# Altium schematic symbol library MF_MiscLib.schlib: 178 symbols (part 2 of 3)
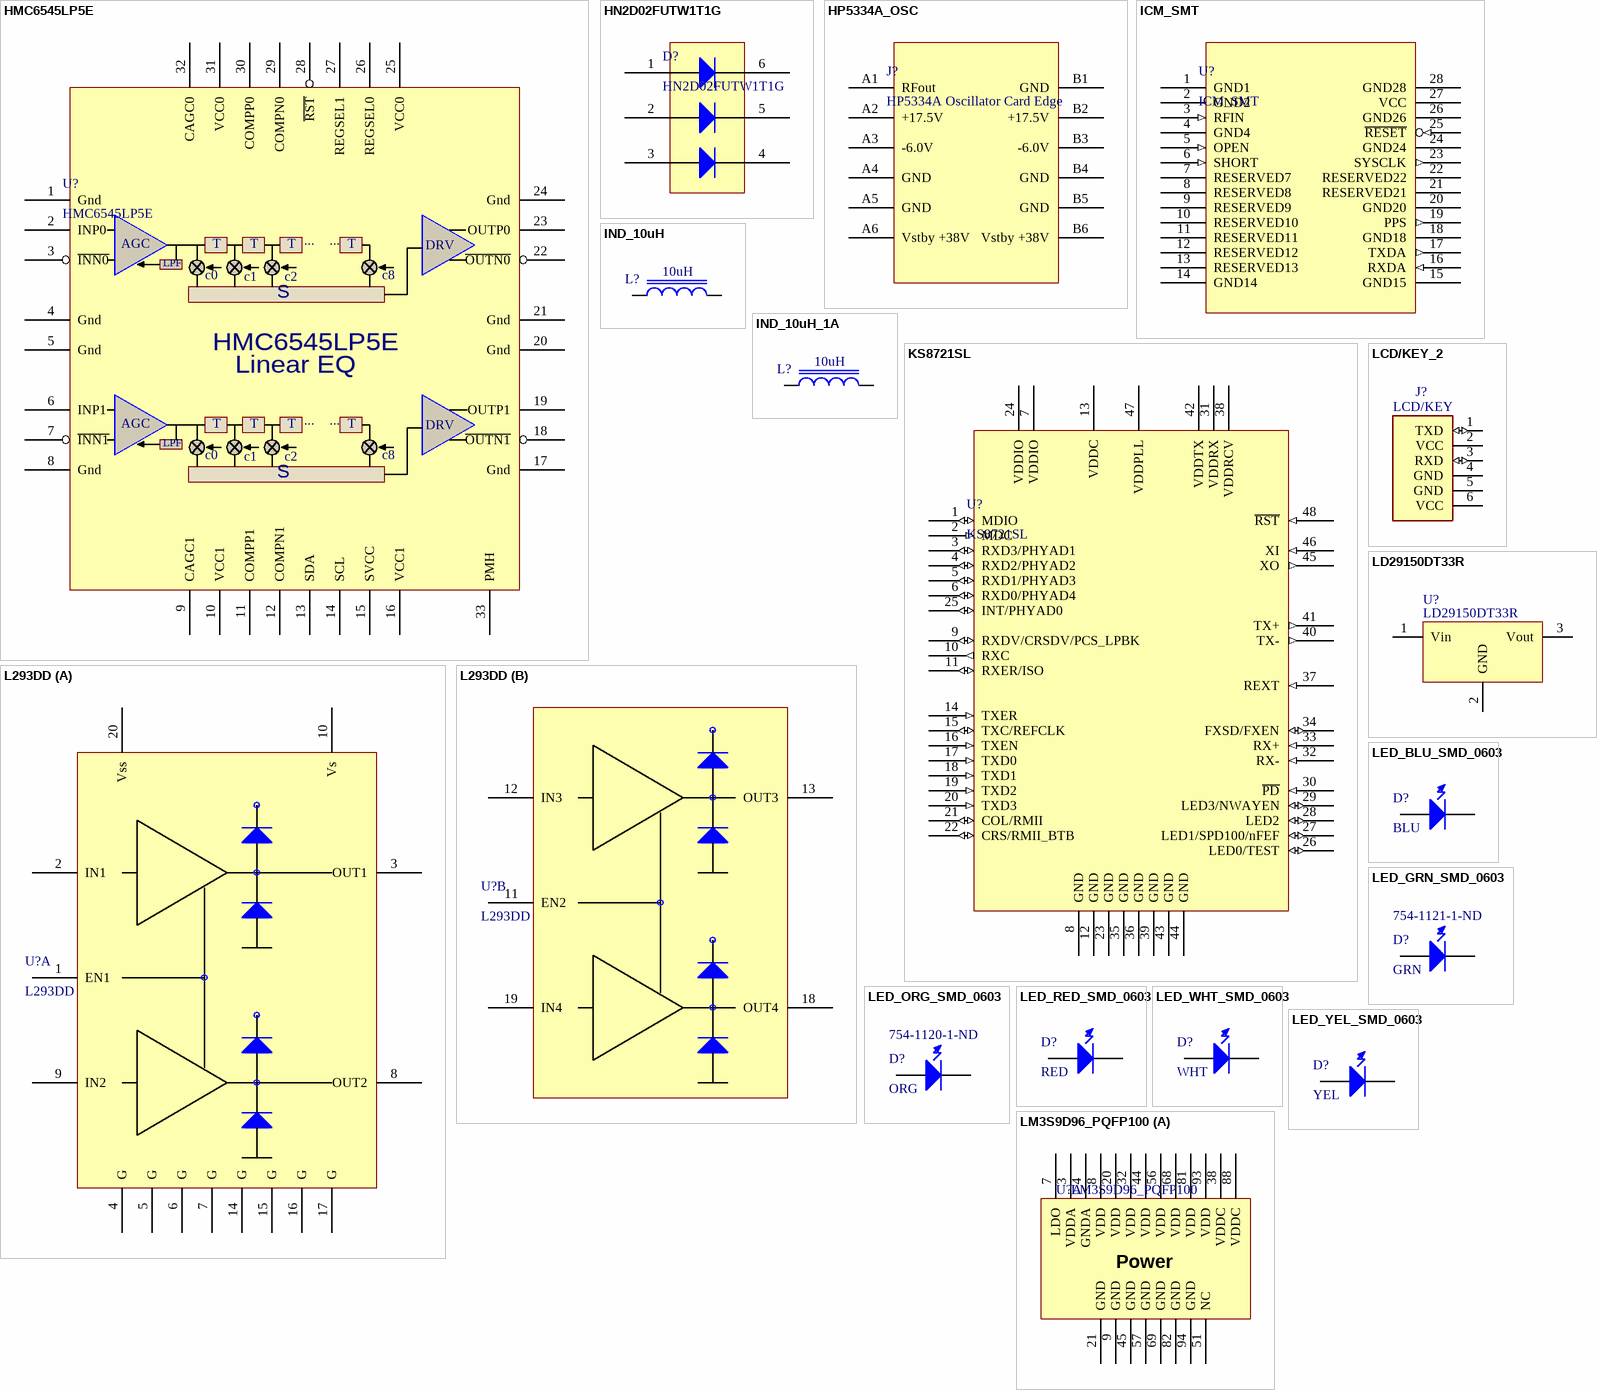
[diagram p10: symbols HMC6545LP5E to LM3S9D96_PQFP100]

## LED_WHT_SMD_0603
designator D?, comment WHT
LED 1.6X0.8MM WHT CLR SMD; Manufacturer: Kingbright; Manufacturer PN: APT1608QWF/D; ComponentLink1Description: Datasheet; ComponentLink1URL: http://www.us.kingbright.com/images/catalog/SPEC/APT1608SURCK.pdf
footprint KINGBRIGHT_LED (Kingbright APT1608 LED)
pins: 1 A, 2 K

## LED_YEL_SMD_0603
designator D?, comment YEL
LED 1.6X0.8MM 588NM YEL CLR SMD; Manufacturer: Kingbright; Manufacturer PN: APT1608SYCK; ComponentLink1Description: Datasheet; ComponentLink1URL: http://www.us.kingbright.com/images/catalog/SPEC/APT1608SURCK.pdf; Supplier 1: Newark; Supplier Part Number 1: 75R0575; Supplier 2: Allied; Supplier Part Number 2: 70062842; Supplier 3: Digi-Key; Supplier Part Number 3: 754-1124-1-ND
footprint KINGBRIGHT_LED (Kingbright APT1608 LED)
pins: 1 A, 2 K

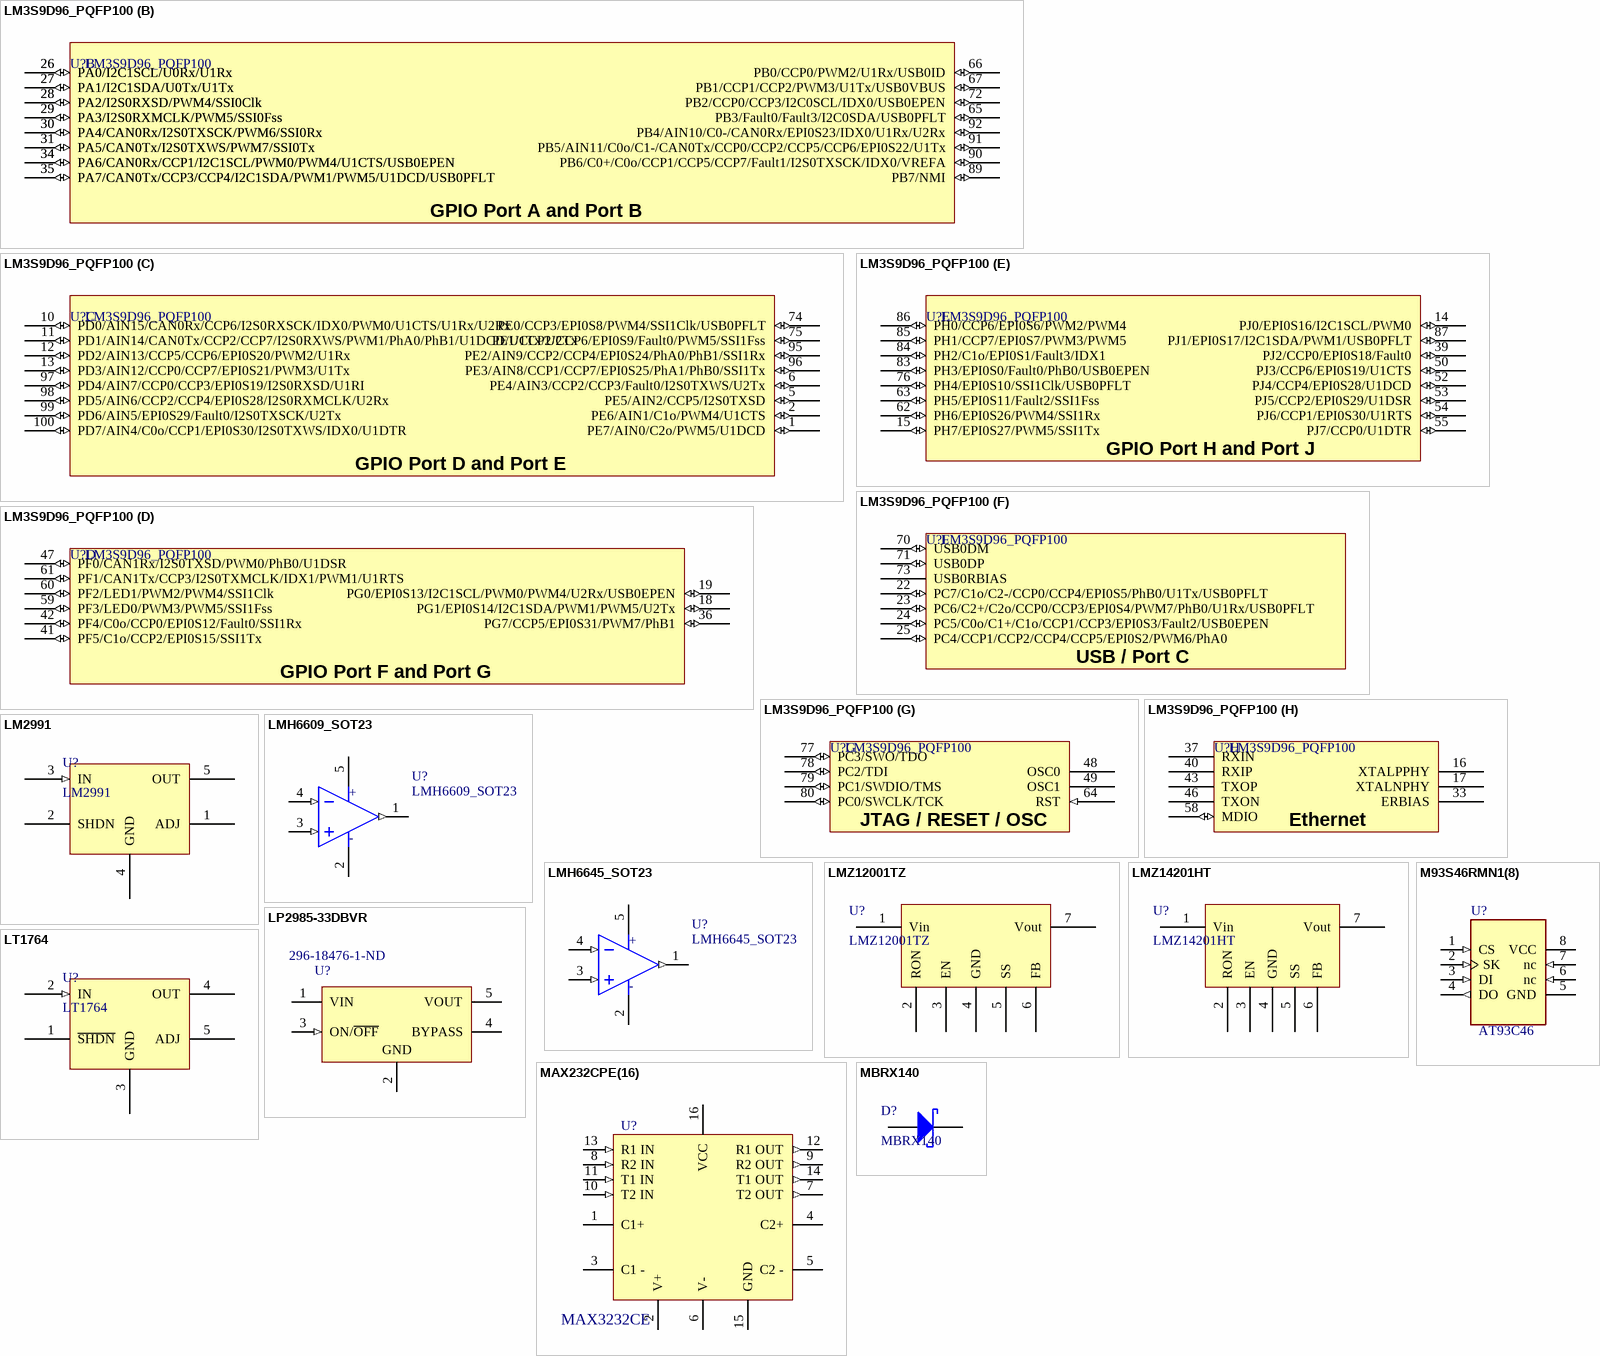
[diagram p4: symbols LM3S9D96_PQFP100 to MBRX140]

## LM3S9D96_PQFP100
designator U?
Processor, ARM Cortex-M3, 512KB, 96KB; Supplier 1: Digi-Key; Supplier 2: Newark; ComponentLink1Description: Datasheet; ComponentLink1URL: http://www.ti.com/lit/ds/symlink/lm3s9d96.pdf; Supplier Part Number 1: LM3S9D96-IQC80-A1-ND; Supplier Part Number 2: 32T2937
footprint TSQFP50P1600X1600X160-100N (TSQFP, 100-Leads, Body 16.2x16.2mm (max), Pitch 0.50mm, IPC Medium Density)
part A pins: 3 VDDA (power), 4 GNDA (power), 7 LDO (power), 8 VDD (power), 9 GND (power), 20 VDD (power), 21 GND (power), 32 VDD (power), 38 VDDC (power), 44 VDD (power), 45 GND (power), 51 NC, 56 VDD (power), 57 GND (power), 68 VDD (power), 69 GND (power), 81 VDD (power), 82 GND (power), 88 VDDC (power), 93 VDD (power), 94 GND (power)
part B pins: 26 PA0/I2C1SCL/U0Rx/U1Rx (io), 26 PA0/I2C1SCL/U0Rx/U1Rx (io), 27 PA1/I2C1SDA/U0Tx/U1Tx (io), 27 PA1/I2C1SDA/U0Tx/U1Tx (io), 28 PA2/I2S0RXSD/PWM4/SSI0Clk (io), 28 PA2/I2S0RXSD/PWM4/SSI0Clk (io), 29 PA3/I2S0RXMCLK/PWM5/SSI0Fss (io), 29 PA3/I2S0RXMCLK/PWM5/SSI0Fss (io), 30 PA4/CAN0Rx/I2S0TXSCK/PWM6/SSI0Rx (io), 30 PA4/CAN0Rx/I2S0TXSCK/PWM6/SSI0Rx (io), 31 PA5/CAN0Tx/I2S0TXWS/PWM7/SSI0Tx (io), 31 PA5/CAN0Tx/I2S0TXWS/PWM7/SSI0Tx (io), 34 PA6/CAN0Rx/CCP1/I2C1SCL/PWM0/PWM4/U1CTS/USB0EPEN (io), 34 PA6/CAN0Rx/CCP1/I2C1SCL/PWM0/PWM4/U1CTS/USB0EPEN (io), 35 PA7/CAN0Tx/CCP3/CCP4/I2C1SDA/PWM1/PWM5/U1DCD/USB0PFLT (io), 35 PA7/CAN0Tx/CCP3/CCP4/I2C1SDA/PWM1/PWM5/U1DCD/USB0PFLT (io), 65 PB3/Fault0/Fault3/I2C0SDA/USB0PFLT (io), 66 PB0/CCP0/PWM2/U1Rx/USB0ID (io), 67 PB1/CCP1/CCP2/PWM3/U1Tx/USB0VBUS (io), 72 PB2/CCP0/CCP3/I2C0SCL/IDX0/USB0EPEN (io), 89 PB7/NMI (io), 90 PB6/C0+/C0o/CCP1/CCP5/CCP7/Fault1/I2S0TXSCK/IDX0/VREFA (io), 91 PB5/AIN11/C0o/C1-/CAN0Tx/CCP0/CCP2/CCP5/CCP6/EPI0S22/U1Tx (io), 92 PB4/AIN10/C0-/CAN0Rx/EPI0S23/IDX0/U1Rx/U2Rx (io)
part C pins: 1 PE7/AIN0/C2o/PWM5/U1DCD (io), 2 PE6/AIN1/C1o/PWM4/U1CTS (io), 5 PE5/AIN2/CCP5/I2S0TXSD (io), 6 PE4/AIN3/CCP2/CCP3/Fault0/I2S0TXWS/U2Tx (io), 10 PD0/AIN15/CAN0Rx/CCP6/I2S0RXSCK/IDX0/PWM0/U1CTS/U1Rx/U2Rx (io), 11 PD1/AIN14/CAN0Tx/CCP2/CCP7/I2S0RXWS/PWM1/PhA0/PhB1/U1DCD/U1Tx/U2Tx (io), 12 PD2/AIN13/CCP5/CCP6/EPI0S20/PWM2/U1Rx (io), 13 PD3/AIN12/CCP0/CCP7/EPI0S21/PWM3/U1Tx (io), 74 PE0/CCP3/EPI0S8/PWM4/SSI1Clk/USB0PFLT (io), 75 PE1/CCP2/CCP6/EPI0S9/Fault0/PWM5/SSI1Fss (io), 95 PE2/AIN9/CCP2/CCP4/EPI0S24/PhA0/PhB1/SSI1Rx (io), 96 PE3/AIN8/CCP1/CCP7/EPI0S25/PhA1/PhB0/SSI1Tx (io), 97 PD4/AIN7/CCP0/CCP3/EPI0S19/I2S0RXSD/U1RI (io), 98 PD5/AIN6/CCP2/CCP4/EPI0S28/I2S0RXMCLK/U2Rx (io), 99 PD6/AIN5/EPI0S29/Fault0/I2S0TXSCK/U2Tx (io), 100 PD7/AIN4/C0o/CCP1/EPI0S30/I2S0TXWS/IDX0/U1DTR (io)
part D pins: 18 PG1/EPI0S14/I2C1SDA/PWM1/PWM5/U2Tx (io), 19 PG0/EPI0S13/I2C1SCL/PWM0/PWM4/U2Rx/USB0EPEN (io), 36 PG7/CCP5/EPI0S31/PWM7/PhB1 (io), 41 PF5/C1o/CCP2/EPI0S15/SSI1Tx (io), 42 PF4/C0o/CCP0/EPI0S12/Fault0/SSI1Rx (io), 47 PF0/CAN1Rx/I2S0TXSD/PWM0/PhB0/U1DSR (io), 59 PF3/LED0/PWM3/PWM5/SSI1Fss (io), 60 PF2/LED1/PWM2/PWM4/SSI1Clk (io), 61 PF1/CAN1Tx/CCP3/I2S0TXMCLK/IDX1/PWM1/U1RTS (io)
part E pins: 14 PJ0/EPI0S16/I2C1SCL/PWM0 (io), 15 PH7/EPI0S27/PWM5/SSI1Tx (io), 39 PJ2/CCP0/EPI0S18/Fault0 (io), 50 PJ3/CCP6/EPI0S19/U1CTS (io), 52 PJ4/CCP4/EPI0S28/U1DCD (io), 53 PJ5/CCP2/EPI0S29/U1DSR (io), 54 PJ6/CCP1/EPI0S30/U1RTS (io), 55 PJ7/CCP0/U1DTR (io), 62 PH6/EPI0S26/PWM4/SSI1Rx (io), 63 PH5/EPI0S11/Fault2/SSI1Fss (io), 76 PH4/EPI0S10/SSI1Clk/USB0PFLT (io), 83 PH3/EPI0S0/Fault0/PhB0/USB0EPEN (io), 84 PH2/C1o/EPI0S1/Fault3/IDX1 (io), 85 PH1/CCP7/EPI0S7/PWM3/PWM5 (io), 86 PH0/CCP6/EPI0S6/PWM2/PWM4 (io), 87 PJ1/EPI0S17/I2C1SDA/PWM1/USB0PFLT (io)
part F pins: 22 PC7/C1o/C2-/CCP0/CCP4/EPI0S5/PhB0/U1Tx/USB0PFLT (io), 23 PC6/C2+/C2o/CCP0/CCP3/EPI0S4/PWM7/PhB0/U1Rx/USB0PFLT (io), 24 PC5/C0o/C1+/C1o/CCP1/CCP3/EPI0S3/Fault2/USB0EPEN (io), 25 PC4/CCP1/CCP2/CCP4/CCP5/EPI0S2/PWM6/PhA0 (io), 70 USB0DM (io), 71 USB0DP (io), 73 USB0RBIAS
part G pins: 48 OSC0, 49 OSC1, 64 RST (in), 77 PC3/SWO/TDO (io), 78 PC2/TDI (io), 79 PC1/SWDIO/TMS (io), 80 PC0/SWCLK/TCK (io)
part H pins: 16 XTALPPHY, 17 XTALNPHY, 33 ERBIAS, 37 RXIN, 40 RXIP, 43 TXOP, 46 TXON, 58 MDIO (io)
part A text: Power
part B text: GPIO Port A and Port B
part C text: GPIO Port D and Port E
part D text: GPIO Port F and Port G
part E text: GPIO Port H and Port J
part F text: USB / Port C
part G text: JTAG / RESET / OSC
part H text: Ethernet

## LM2991
designator U?
Voltage Reguilator, LDO NEG 1A ADJ DDPAK-5; ComponentLink1Description: Datasheet; ComponentLink1URL: http://www.ti.com/lit/ds/symlink/lm2991.pdf; Supplier 1: Newark; Supplier 2: Digi-Key; Supplier Part Number 1: 41K4639; Supplier Part Number 2: LM2991S-ND
footprint TO170P1404X457-6N (D2-PAK, 6-Pads, Body 9.4x10.5mm (max), IPC Medium Density)
pins: 1 ADJ, 2 SHDN, 3 IN (in), 4 GND, 5 OUT

## LMH6609_SOT23
designator U?
Op Amp, 900MHz, SOT-23; Manufacturer: Texas Instruments; Manufacturer PN: LMH6609MF/NOPB; ComponentLink1Description: Datasheet; ComponentLink1URL: http://www.ti.com/lit/ds/symlink/lmh6609.pdf; Supplier 1: Digi-Key; Supplier Part Number 1: LMH6609MF/NOPBDKR-ND
footprint RJ5 (SOT23, 5-Leads, Body 3.0x3.0mm (max), Pitch 0.95mm, IPC Medium Density)
pins: 1 OUT (out), 2 V- (power), 3 IN+ (in), 4 IN- (in), 5 V+ (power)
text: +; -

## LMH6645_SOT23
designator U?
Op Amp, 55MHz RRO, SOT-23; Manufacturer: Texas Instruments; Manufacturer PN: LMH6645MF/NOPB; ComponentLink1Description: Datasheet; ComponentLink1URL: http://www.ti.com/lit/ds/symlink/lmh6645.pdf; Supplier 1: Mouser; Supplier Part Number 1: 926-LMH6645MFX/NOPB; Supplier 2: Mouser; Supplier Part Number 2: 926-LMH6645MF/NOPB
footprint RJ5 (SOT23, 5-Leads, Body 3.0x3.0mm (max), Pitch 0.95mm, IPC Medium Density)
pins: 1 OUT (out), 2 V- (power), 3 IN+ (in), 4 IN- (in), 5 V+ (power)
text: +; -

## LMZ12001TZ
designator U?
Voltage regulator module, switching 20V in 0.8 - 6V out 1A; Manufacturer: Texas Instruments; Manufacturer PN: LMZ12001TZ-ADJ/NOPB; ComponentLink1Description: Datasheet; ComponentLink1URL: http://www.ti.com/lit/ds/symlink/lmz12001.pdf; Supplier 1: Digi-Key; Supplier Part Number 1: LMZ12001TZ-ADJ/NOPBCT-ND; Supplier 2: Newark; Supplier Part Number 2: 74R8006
footprint NS_TZA07A (D2-PAK, 8-Pads, Body 10.1x10.4mm (max), IPC Medium Density)
pins: 1 Vin (power), 2 RON (power), 3 EN (power), 4 GND (power), 5 SS (power), 6 FB (power), 7 Vout (power)

## LMZ14201HT
designator U?
Voltage regulator module, switching 42V in 5 - 30V out 1A; Manufacturer: Texas Instruments; Manufacturer PN: LMZ14201HT/NOPB; Supplier 1: Digi-Key; Supplier 2: Newark; Supplier Part Number 1: LMZ14201HTZ/NOPBCT-ND; Supplier Part Number 2: 39T4768; ComponentLink1Description: Datasheet; ComponentLink1URL: http://www.ti.com/lit/ds/symlink/lmz14201h.pdf
footprint NS_TZA07A (D2-PAK, 8-Pads, Body 10.1x10.4mm (max), IPC Medium Density)
pins: 1 Vin (power), 2 RON (power), 3 EN (power), 4 GND (power), 5 SS (power), 6 FB (power), 7 Vout (power)

## LP2985-33DBVR
designator U?  Supplier Part Number 2: 296-18476-1-ND
Single Output Low Noise LDO, 150 mA, Fixed 3.3 V Output, 2.2 to 16 V Input, with Low IQ, 5-pin SOT-23 (DBV), -40 to 125 degC, Green (RoHS & no Sb/Br); Manufacturer: Texas Instruments; PartNumber: LP2985-33DBVR; Accuracy(%): 1.5; Fixed Output Options(V): 3.3; Iout(Max)(A): 0.15; Iq(Typ)(mA): 0.85; SubFamily: Single Channel LDO; Vdo(Typ)(mV): 280; Vin(Max)(V): 16; Vin(Min)(V): 2.2; Vout Adj(Max)(V): 10; DatasheetVersion: SLVS522N; PackageVersion: 4073253-4/K; PackageReference: DBV5; PackageDescription: 5-Pin Plastic Small Outline, Body 1.60 Ã— 2.90 mm, Pitch 0.95 mm; Eco-Plan: Green (RoHS & no Sb/Br); Vout Adj(Min)(V): 10; Mounting Technology: Surface Mount; Code_JEDEC: MO-178; ComponentLink1Description: Manufacturer URL; ComponentLink1URL: http://www.ti.com/; ComponentLink2Description: Datasheet; ComponentLink2URL: http://www.ti.com/general/docs/lit/getliterature.tsp?genericPartNumber=LP2985-10&fileType=pdf; ComponentLink3Description: Package Specification; ComponentLink3URL: http://www.ti.com/litv/pdf/mpds018i; Supplier 1: Newark; Supplier Part Number 1: 43J9346; Supplier 2: Digi-Key
footprint TI-DBV5_N (SOT23, 5-Leads, Body 2.9x1.6mm, Pitch 0.95mm, IPC Medium Density)
footprint TI-DBV5_L (SOT23, 5-Leads, Body 2.9x1.6mm, Pitch 0.95mm, IPC High Density)
footprint TI-DBV5_M (SOT23, 5-Leads, Body 2.9x1.6mm, Pitch 0.95mm, IPC Low Density)
pins: 1 VIN (power), 2 GND (power), 3 ON/~{OFF} (in), 4 BYPASS, 5 VOUT (power)

## LT1764
designator U?
Voltage Reguilator, LDO LO NOISE 3A ADJ DDPAK-5; ComponentLink1Description: Datasheet; ComponentLink1URL: http://cds.linear.com/docs/Datasheet/1764fb.pdf; Supplier 1: Digi-Key; Supplier 2: Newark; Supplier Part Number 1: LT1764AEQ#PBF-ND; Supplier Part Number 2: 57M6108
footprint TO170P1404X457-6N (D2-PAK, 6-Pads, Body 9.4x10.5mm (max), IPC Medium Density)
pins: 1 ~{SHDN}, 2 IN (in), 3 GND, 4 OUT, 5 ADJ

## M93S46RMN1(8)
designator U?, comment AT93C46
4K/2K/1K(X16) Serial Microwire Bus EEPROM With Block Protection; Part Field 1: EE MEMORY  64x16 SERIAL; Part Field 2: ATMEL AT93C46-10SU-1.8; Part Field 3: AT93C46-10SU-1.8-ND; Part Field 4: 0.68; Part Field 5: 0.38
footprint SOP8
footprint SO8
pins: 1 CS (in), 2 SK (in), 3 DI (in), 4 DO (out), 5 GND, 6 nc (in), 7 nc (in), 8 VCC

## MAX232CPE(16)
designator U?, comment MAX3232CE
+-15KV ESD-PROTECTED, +5V RS-232 TRANSCEIVERS; Part Field 1: MAXIM  MAX3232CE; Part Field 2: MAX3232ECDR; Part Field 3: 296-19851-1-ND; Part Field 4: 1.50; Part Field 5: 0.90
footprint SO16
pins: 1 C1+, 2 V+ (power), 3 C1 -, 4 C2+, 5 C2 -, 6 V- (power), 7 T2 OUT (out), 8 R2 IN (in), 9 R2 OUT (out), 10 T2 IN (in), 11 T1 IN (in), 12 R1 OUT (out), 13 R1 IN (in), 14 T1 OUT (out), 15 GND (power), 16 VCC (power)

## MBRX140
designator D?
DIODE SCHOTTKY 40V 1A SOD123; Manufacturer: Micro Commercial Co; Manufacturer PN: MBRX140-TP; ComponentLink1Description: Datasheet; ComponentLink1URL: http://www.mccsemi.com/up_pdf/MBRX120-MBRX160(SOD123).pdf; Supplier 1: Digi-Key; Supplier 2: Newark; Supplier Part Number 1: MBRX140TPMSDKR-ND; Supplier Part Number 2: 51T4912
footprint SOD123
pins: 1 K, 2 A

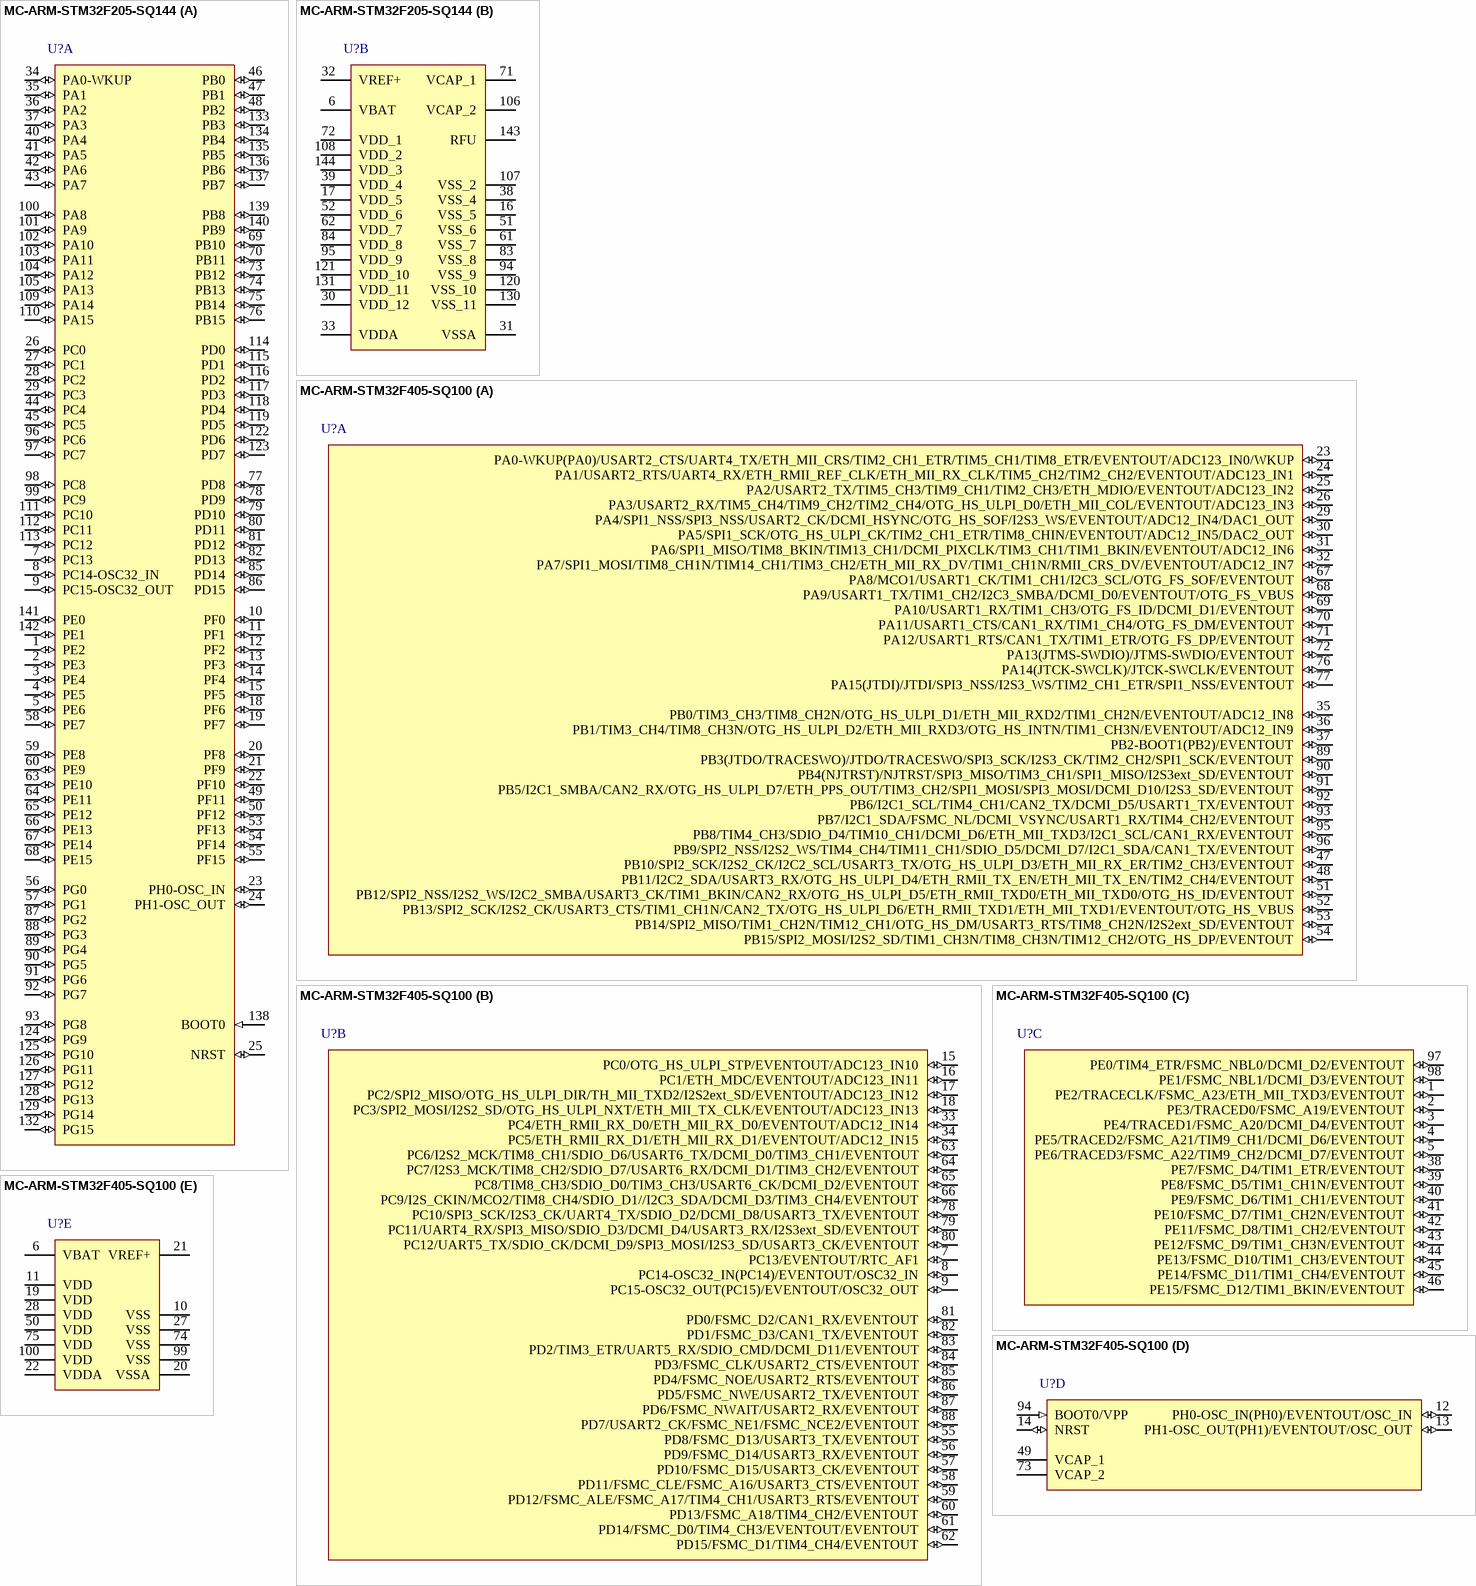
[diagram p5: symbols MC-ARM-STM32F205-SQ144 to MC-ARM-STM32F405-SQ100]

## MC-ARM-STM32F205-SQ144
designator U?
footprint LQFP144_M (Thin QFP, 144-Leads, Body 20x20mm, Pitch 0.5mm, IPC Low Density)
part A pins: 1 PE2 (io), 2 PE3 (io), 3 PE4 (io), 4 PE5 (io), 5 PE6 (io), 7 PC13 (io), 8 PC14-OSC32_IN (io), 9 PC15-OSC32_OUT (io), 10 PF0 (io), 11 PF1 (io), 12 PF2 (io), 13 PF3 (io), 14 PF4 (io), 15 PF5 (io), 18 PF6 (io), 19 PF7 (io), 20 PF8 (io), 21 PF9 (io), 22 PF10 (io), 23 PH0-OSC_IN (io), 24 PH1-OSC_OUT (io), 25 NRST (io), 26 PC0 (io), 27 PC1 (io), 28 PC2 (io), 29 PC3 (io), 34 PA0-WKUP (io), 35 PA1 (io), 36 PA2 (io), 37 PA3 (io), 40 PA4 (io), 41 PA5 (io), 42 PA6 (io), 43 PA7 (io), 44 PC4 (io), 45 PC5 (io), 46 PB0 (io), 47 PB1 (io), 48 PB2 (io), 49 PF11 (io), 50 PF12 (io), 53 PF13 (io), 54 PF14 (io), 55 PF15 (io), 56 PG0 (io), 57 PG1 (io), 58 PE7 (io), 59 PE8 (io), 60 PE9 (io), 63 PE10 (io), 64 PE11 (io), 65 PE12 (io), 66 PE13 (io), 67 PE14 (io), 68 PE15 (io), 69 PB10 (io), 70 PB11 (io), 73 PB12 (io), 74 PB13 (io), 75 PB14 (io), 76 PB15 (io), 77 PD8 (io), 78 PD9 (io), 79 PD10 (io), 80 PD11 (io), 81 PD12 (io), 82 PD13 (io), 85 PD14 (io), 86 PD15 (io), 87 PG2 (io), 88 PG3 (io), 89 PG4 (io), 90 PG5 (io), 91 PG6 (io), 92 PG7 (io), 93 PG8 (io), 96 PC6 (io), 97 PC7 (io), 98 PC8 (io), 99 PC9 (io), 100 PA8 (io), 101 PA9 (io), 102 PA10 (io), 103 PA11 (io), 104 PA12 (io), 105 PA13 (io), 109 PA14 (io), 110 PA15 (io), 111 PC10 (io), 112 PC11 (io), 113 PC12 (io), 114 PD0 (io), 115 PD1 (io), 116 PD2 (io), 117 PD3 (io), 118 PD4 (io), 119 PD5 (io), 122 PD6 (io), 123 PD7 (io), 124 PG9 (io), 125 PG10 (io), 126 PG11 (io), 127 PG12 (io), 128 PG13 (io), 129 PG14 (io), 132 PG15 (io), 133 PB3 (io), 134 PB4 (io), 135 PB5 (io), 136 PB6 (io), 137 PB7 (io), 138 BOOT0 (in), 139 PB8 (io), 140 PB9 (io), 141 PE0 (io), 142 PE1 (io)
part B pins: 6 VBAT (power), 16 VSS_5 (power), 17 VDD_5 (power), 30 VDD_12 (power), 31 VSSA (power), 32 VREF+ (power), 33 VDDA (power), 38 VSS_4 (power), 39 VDD_4 (power), 51 VSS_6 (power), 52 VDD_6 (power), 61 VSS_7 (power), 62 VDD_7 (power), 71 VCAP_1, 72 VDD_1 (power), 83 VSS_8 (power), 84 VDD_8 (power), 94 VSS_9 (power), 95 VDD_9 (power), 106 VCAP_2, 107 VSS_2 (power), 108 VDD_2 (power), 120 VSS_10 (power), 121 VDD_10 (power), 130 VSS_11 (power), 131 VDD_11 (power), 143 RFU, 144 VDD_3 (power)

## MC-ARM-STM32F405-SQ100
designator U?
footprint LQFP100_M (Thin QFP, 100-Leads, Body 14x14mm, Pitch 0.5mm, IPC Low Density)
part A pins: 23 PA0-WKUP(PA0)/USART2_CTS/UART4_TX/ETH_MII_CRS/TIM2_CH1_ETR/TIM5_CH1/TIM8_ETR/EVENTOUT/ADC123_IN0/WKUP (io), 24 PA1/USART2_RTS/UART4_RX/ETH_RMII_REF_CLK/ETH_MII_RX_CLK/TIM5_CH2/TIM2_CH2/EVENTOUT/ADC123_IN1 (io), 25 PA2/USART2_TX/TIM5_CH3/TIM9_CH1/TIM2_CH3/ETH_MDIO/EVENTOUT/ADC123_IN2 (io), 26 PA3/USART2_RX/TIM5_CH4/TIM9_CH2/TIM2_CH4/OTG_HS_ULPI_D0/ETH_MII_COL/EVENTOUT/ADC123_IN3 (io), 29 PA4/SPI1_NSS/SPI3_NSS/USART2_CK/DCMI_HSYNC/OTG_HS_SOF/I2S3_WS/EVENTOUT/ADC12_IN4/DAC1_OUT (io), 30 PA5/SPI1_SCK/OTG_HS_ULPI_CK/TIM2_CH1_ETR/TIM8_CHIN/EVENTOUT/ADC12_IN5/DAC2_OUT (io), 31 PA6/SPI1_MISO/TIM8_BKIN/TIM13_CH1/DCMI_PIXCLK/TIM3_CH1/TIM1_BKIN/EVENTOUT/ADC12_IN6 (io), 32 PA7/SPI1_MOSI/TIM8_CH1N/TIM14_CH1/TIM3_CH2/ETH_MII_RX_DV/TIM1_CH1N/RMII_CRS_DV/EVENTOUT/ADC12_IN7 (io), 35 PB0/TIM3_CH3/TIM8_CH2N/OTG_HS_ULPI_D1/ETH_MII_RXD2/TIM1_CH2N/EVENTOUT/ADC12_IN8 (io), 36 PB1/TIM3_CH4/TIM8_CH3N/OTG_HS_ULPI_D2/ETH_MII_RXD3/OTG_HS_INTN/TIM1_CH3N/EVENTOUT/ADC12_IN9 (io), 37 PB2-BOOT1(PB2)/EVENTOUT (io), 47 PB10/SPI2_SCK/I2S2_CK/I2C2_SCL/USART3_TX/OTG_HS_ULPI_D3/ETH_MII_RX_ER/TIM2_CH3/EVENTOUT (io), 48 PB11/I2C2_SDA/USART3_RX/OTG_HS_ULPI_D4/ETH_RMII_TX_EN/ETH_MII_TX_EN/TIM2_CH4/EVENTOUT (io), 51 PB12/SPI2_NSS/I2S2_WS/I2C2_SMBA/USART3_CK/TIM1_BKIN/CAN2_RX/OTG_HS_ULPI_D5/ETH_RMII_TXD0/ETH_MII_TXD0/OTG_HS_ID/EVENTOUT (io), 52 PB13/SPI2_SCK/I2S2_CK/USART3_CTS/TIM1_CH1N/CAN2_TX/OTG_HS_ULPI_D6/ETH_RMII_TXD1/ETH_MII_TXD1/EVENTOUT/OTG_HS_VBUS (io), 53 PB14/SPI2_MISO/TIM1_CH2N/TIM12_CH1/OTG_HS_DM/USART3_RTS/TIM8_CH2N/I2S2ext_SD/EVENTOUT (io), 54 PB15/SPI2_MOSI/I2S2_SD/TIM1_CH3N/TIM8_CH3N/TIM12_CH2/OTG_HS_DP/EVENTOUT (io), 67 PA8/MCO1/USART1_CK/TIM1_CH1/I2C3_SCL/OTG_FS_SOF/EVENTOUT (io), 68 PA9/USART1_TX/TIM1_CH2/I2C3_SMBA/DCMI_D0/EVENTOUT/OTG_FS_VBUS (io), 69 PA10/USART1_RX/TIM1_CH3/OTG_FS_ID/DCMI_D1/EVENTOUT (io), 70 PA11/USART1_CTS/CAN1_RX/TIM1_CH4/OTG_FS_DM/EVENTOUT (io), 71 PA12/USART1_RTS/CAN1_TX/TIM1_ETR/OTG_FS_DP/EVENTOUT (io), 72 PA13(JTMS-SWDIO)/JTMS-SWDIO/EVENTOUT (io), 76 PA14(JTCK-SWCLK)/JTCK-SWCLK/EVENTOUT (io), 77 PA15(JTDI)/JTDI/SPI3_NSS/I2S3_WS/TIM2_CH1_ETR/SPI1_NSS/EVENTOUT (io), 89 PB3(JTDO/TRACESWO)/JTDO/TRACESWO/SPI3_SCK/I2S3_CK/TIM2_CH2/SPI1_SCK/EVENTOUT (io), 90 PB4(NJTRST)/NJTRST/SPI3_MISO/TIM3_CH1/SPI1_MISO/I2S3ext_SD/EVENTOUT (io), 91 PB5/I2C1_SMBA/CAN2_RX/OTG_HS_ULPI_D7/ETH_PPS_OUT/TIM3_CH2/SPI1_MOSI/SPI3_MOSI/DCMI_D10/I2S3_SD/EVENTOUT (io), 92 PB6/I2C1_SCL/TIM4_CH1/CAN2_TX/DCMI_D5/USART1_TX/EVENTOUT (io), 93 PB7/I2C1_SDA/FSMC_NL/DCMI_VSYNC/USART1_RX/TIM4_CH2/EVENTOUT (io), 95 PB8/TIM4_CH3/SDIO_D4/TIM10_CH1/DCMI_D6/ETH_MII_TXD3/I2C1_SCL/CAN1_RX/EVENTOUT (io), 96 PB9/SPI2_NSS/I2S2_WS/TIM4_CH4/TIM11_CH1/SDIO_D5/DCMI_D7/I2C1_SDA/CAN1_TX/EVENTOUT (io)
part B pins: 7 PC13/EVENTOUT/RTC_AF1 (io), 8 PC14-OSC32_IN(PC14)/EVENTOUT/OSC32_IN (io), 9 PC15-OSC32_OUT(PC15)/EVENTOUT/OSC32_OUT (io), 15 PC0/OTG_HS_ULPI_STP/EVENTOUT/ADC123_IN10 (io), 16 PC1/ETH_MDC/EVENTOUT/ADC123_IN11 (io), 17 PC2/SPI2_MISO/OTG_HS_ULPI_DIR/TH_MII_TXD2/I2S2ext_SD/EVENTOUT/ADC123_IN12 (io), 18 PC3/SPI2_MOSI/I2S2_SD/OTG_HS_ULPI_NXT/ETH_MII_TX_CLK/EVENTOUT/ADC123_IN13 (io), 33 PC4/ETH_RMII_RX_D0/ETH_MII_RX_D0/EVENTOUT/ADC12_IN14 (io), 34 PC5/ETH_RMII_RX_D1/ETH_MII_RX_D1/EVENTOUT/ADC12_IN15 (io), 55 PD8/FSMC_D13/USART3_TX/EVENTOUT (io), 56 PD9/FSMC_D14/USART3_RX/EVENTOUT (io), 57 PD10/FSMC_D15/USART3_CK/EVENTOUT (io), 58 PD11/FSMC_CLE/FSMC_A16/USART3_CTS/EVENTOUT (io), 59 PD12/FSMC_ALE/FSMC_A17/TIM4_CH1/USART3_RTS/EVENTOUT (io), 60 PD13/FSMC_A18/TIM4_CH2/EVENTOUT (io), 61 PD14/FSMC_D0/TIM4_CH3/EVENTOUT/EVENTOUT (io), 62 PD15/FSMC_D1/TIM4_CH4/EVENTOUT (io), 63 PC6/I2S2_MCK/TIM8_CH1/SDIO_D6/USART6_TX/DCMI_D0/TIM3_CH1/EVENTOUT (io), 64 PC7/I2S3_MCK/TIM8_CH2/SDIO_D7/USART6_RX/DCMI_D1/TIM3_CH2/EVENTOUT (io), 65 PC8/TIM8_CH3/SDIO_D0/TIM3_CH3/USART6_CK/DCMI_D2/EVENTOUT (io), 66 PC9/I2S_CKIN/MCO2/TIM8_CH4/SDIO_D1//I2C3_SDA/DCMI_D3/TIM3_CH4/EVENTOUT (io), 78 PC10/SPI3_SCK/I2S3_CK/UART4_TX/SDIO_D2/DCMI_D8/USART3_TX/EVENTOUT (io), 79 PC11/UART4_RX/SPI3_MISO/SDIO_D3/DCMI_D4/USART3_RX/I2S3ext_SD/EVENTOUT (io), 80 PC12/UART5_TX/SDIO_CK/DCMI_D9/SPI3_MOSI/I2S3_SD/USART3_CK/EVENTOUT (io), 81 PD0/FSMC_D2/CAN1_RX/EVENTOUT (io), 82 PD1/FSMC_D3/CAN1_TX/EVENTOUT (io), 83 PD2/TIM3_ETR/UART5_RX/SDIO_CMD/DCMI_D11/EVENTOUT (io), 84 PD3/FSMC_CLK/USART2_CTS/EVENTOUT (io), 85 PD4/FSMC_NOE/USART2_RTS/EVENTOUT (io), 86 PD5/FSMC_NWE/USART2_TX/EVENTOUT (io), 87 PD6/FSMC_NWAIT/USART2_RX/EVENTOUT (io), 88 PD7/USART2_CK/FSMC_NE1/FSMC_NCE2/EVENTOUT (io)
part C pins: 1 PE2/TRACECLK/FSMC_A23/ETH_MII_TXD3/EVENTOUT (io), 2 PE3/TRACED0/FSMC_A19/EVENTOUT (io), 3 PE4/TRACED1/FSMC_A20/DCMI_D4/EVENTOUT (io), 4 PE5/TRACED2/FSMC_A21/TIM9_CH1/DCMI_D6/EVENTOUT (io), 5 PE6/TRACED3/FSMC_A22/TIM9_CH2/DCMI_D7/EVENTOUT (io), 38 PE7/FSMC_D4/TIM1_ETR/EVENTOUT (io), 39 PE8/FSMC_D5/TIM1_CH1N/EVENTOUT (io), 40 PE9/FSMC_D6/TIM1_CH1/EVENTOUT (io), 41 PE10/FSMC_D7/TIM1_CH2N/EVENTOUT (io), 42 PE11/FSMC_D8/TIM1_CH2/EVENTOUT (io), 43 PE12/FSMC_D9/TIM1_CH3N/EVENTOUT (io), 44 PE13/FSMC_D10/TIM1_CH3/EVENTOUT (io), 45 PE14/FSMC_D11/TIM1_CH4/EVENTOUT (io), 46 PE15/FSMC_D12/TIM1_BKIN/EVENTOUT (io), 97 PE0/TIM4_ETR/FSMC_NBL0/DCMI_D2/EVENTOUT (io), 98 PE1/FSMC_NBL1/DCMI_D3/EVENTOUT (io)
part D pins: 12 PH0-OSC_IN(PH0)/EVENTOUT/OSC_IN (io), 13 PH1-OSC_OUT(PH1)/EVENTOUT/OSC_OUT (io), 14 NRST (io), 49 VCAP_1 (power), 73 VCAP_2 (power), 94 BOOT0/VPP (in)
part E pins: 6 VBAT (power), 10 VSS (power), 11 VDD (power), 19 VDD (power), 20 VSSA (power), 21 VREF+ (power), 22 VDDA (power), 27 VSS (power), 28 VDD (power), 50 VDD (power), 74 VSS (power), 75 VDD (power), 99 VSS (power), 100 VDD (power)

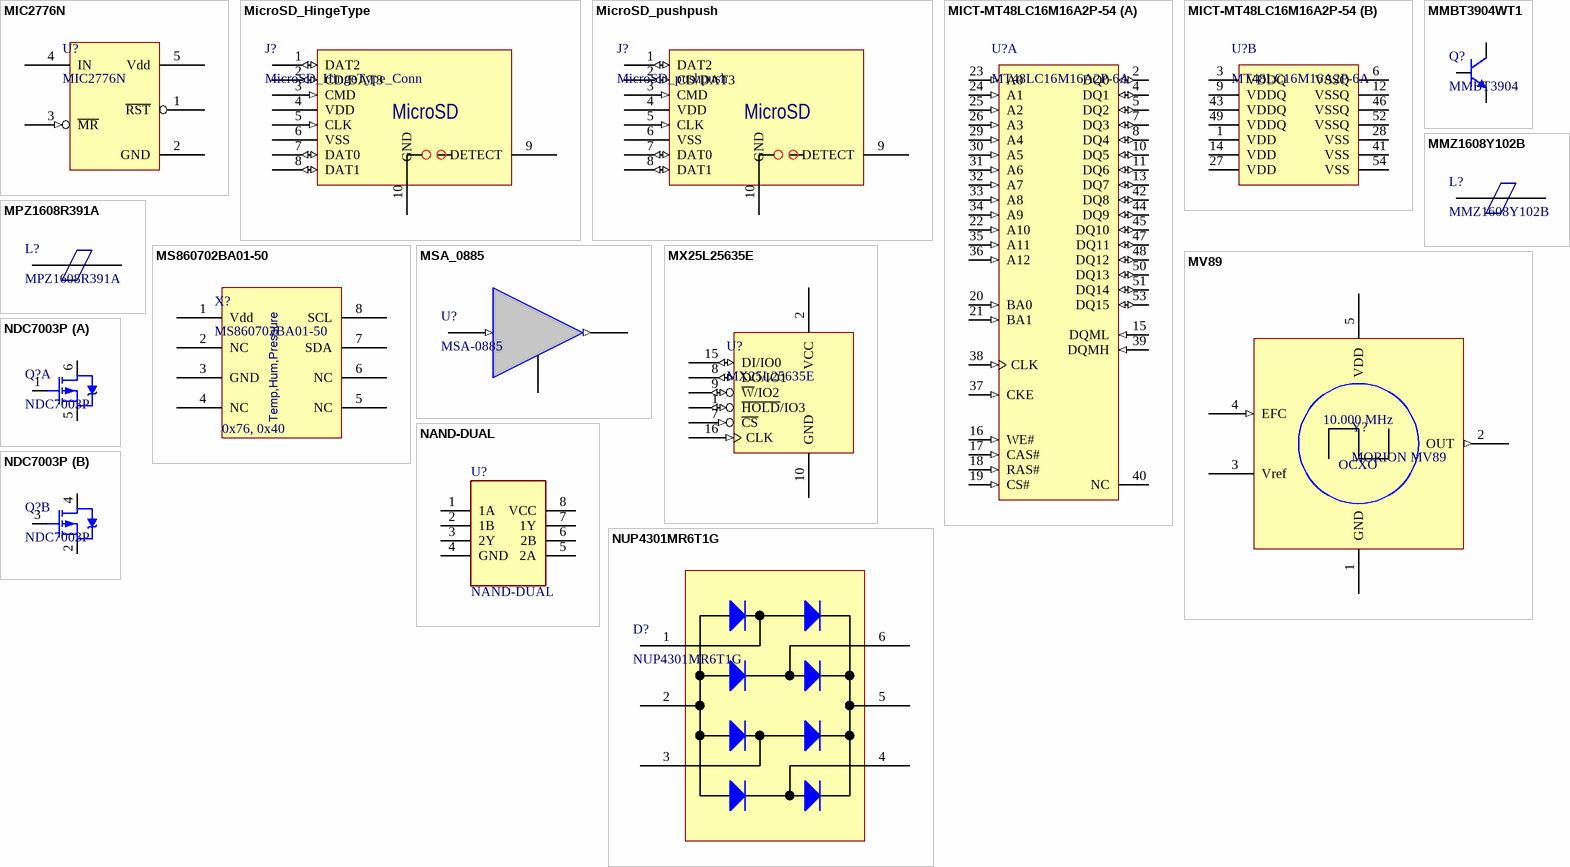
[diagram p6: symbols MIC2776N to NUP4301MR6T1G]

## MIC2776N
designator U?
MIC2776N-YM5 Reset/Voltage Supv Open drain Active Low; Manufacturer: Micrel; TPN: 156-9356-00; ComponentLink1Description: Datasheet; ComponentLink1URL: http://www.micrel.com/_PDF/mic2776.pdf; Supplier 1: Digi-Key; Supplier 3: Arrow; Supplier Part Number 1: 576-1103-1-ND; Supplier Part Number 3: 41665962S7461516N1374; Manufacturer PN: MIC2776N-YM5
footprint SOT95P245X145-5N (SOT23, 5-Leads, Body 3.0x2.6mm (max), Pitch 0.95mm, IPC Medium Density)
pins: 1 ~{RST} (oc), 2 GND, 3 ~{MR} (in), 4 IN, 5 Vdd

## MicroSD_HingeType
designator J?, comment MicroSD_HingeType_Conn
Micro SD hinge type connector; Supplier 1: Newark; Supplier 2: Digi-Key; Supplier Part Number 1: 35R0581; Supplier Part Number 2: HR1940CT-ND; ComponentLink1Description: Datasheet; ComponentLink1URL: http://www.hirose.co.jp/cataloge_hp/e60900232.pdf
footprint MicroSD_Hinge
pins: 1 DAT2 (io), 2 CD/DAT3 (io), 3 CMD (in), 4 VDD (power), 5 CLK (in), 6 VSS (power), 7 DAT0 (io), 8 DAT1 (io), 9 DETECT, 10 GND
text: MicroSD

## MicroSD_pushpush
designator J?
Micro SD socket push-push; Manufacturer: Molex; Manufacturer PN: 0492250821; ComponentLink1Description: Datasheet; ComponentLink1URL: http://www.molex.com/pdm_docs/sd/492250821_sd.pdf; Supplier 1: Digi-Key; Supplier Part Number 1: WM3295CT-ND; Supplier 2: Arrow; Supplier Part Number 2: 46119328S8062909N3303; Supplier 3: Mouser; Supplier Part Number 3: 538-49225-0821
footprint MicroSD_PushPush (MicroSD memory socket Push-Push Molex 492250821)
pins: 1 DAT2 (io), 2 CD/DAT3 (io), 3 CMD (in), 4 VDD (power), 5 CLK (in), 6 VSS (power), 7 DAT0 (io), 8 DAT1 (io), 9 DETECT, 10 GND
text: MicroSD

## MICT-MT48LC16M16A2P-54
designator U?, comment MT48LC16M16A2P-6A
IC SDRAM 256MBIT 167MHZ 54TSOP; Manufacturer: Micron Technology; Manufacturer PN: MT48LC16M16A2P-6A:G TR; ComponentLink1Description: Datasheet; ComponentLink1URL: http://www.micron.com/~/media/Documents/Products/Data%20Sheet/DRAM/256Mb_sdr.pdf; Supplier 1: Arrow; Supplier Part Number 1: 51515482S9448132N2406; Supplier 2: Newark; Supplier Part Number 2: 63W8520; Supplier 3: Digi-Key; Supplier Part Number 3: 557-1223-1-ND
footprint MICT-P-54_N (SOP, 54-Leads, Body 22.22x10.16mm, Pitch 0.8mm, IPC Medium Density)
part A pins: 2 DQ0 (io) "Data input/output: Data bus for x16 (pins 4, 7, 10, 13, 42, 45, 48, and 51 are NC for x8; and pins 2, 4, 7, 8, 10, 13, 42, 45, 47, 48, 51, and 53 are NC for x4).", 4 DQ1 (io) "Data input/output: Data bus for x16 (pins 4, 7, 10, 13, 42, 45, 48, and 51 are NC for x8; and pins 2, 4, 7, 8, 10, 13, 42, 45, 47, 48, 51, and 53 are NC for x4).", 5 DQ2 (io) "Data input/output: Data bus for x16 (pins 4, 7, 10, 13, 42, 45, 48, and 51 are NC for x8; and pins 2, 4, 7, 8, 10, 13, 42, 45, 47, 48, 51, and 53 are NC for x4).", 7 DQ3 (io) "Data input/output: Data bus for x16 (pins 4, 7, 10, 13, 42, 45, 48, and 51 are NC for x8; and pins 2, 4, 7, 8, 10, 13, 42, 45, 47, 48, 51, and 53 are NC for x4).", 8 DQ4 (io) "Data input/output: Data bus for x16 (pins 4, 7, 10, 13, 42, 45, 48, and 51 are NC for x8; and pins 2, 4, 7, 8, 10, 13, 42, 45, 47, 48, 51, and 53 are NC for x4).", 10 DQ5 (io) "Data input/output: Data bus for x16 (pins 4, 7, 10, 13, 42, 45, 48, and 51 are NC for x8; and pins 2, 4, 7, 8, 10, 13, 42, 45, 47, 48, 51, and 53 are NC for x4).", 11 DQ6 (io) "Data input/output: Data bus for x16 (pins 4, 7, 10, 13, 42, 45, 48, and 51 are NC for x8; and pins 2, 4, 7, 8, 10, 13, 42, 45, 47, 48, 51, and 53 are NC for x4).", 13 DQ7 (io) "Data input/output: Data bus for x16 (pins 4, 7, 10, 13, 42, 45, 48, and 51 are NC for x8; and pins 2, 4, 7, 8, 10, 13, 42, 45, 47, 48, 51, and 53 are NC for x4).", 15 DQML (in) "Input/output mask: DQM is sampled HIGH and is an input mask signal for write accesses and an output enable signal for read accesses. Input data is masked during a WRITE cycle. The output buffers are High-Z (two-clock (See Datasheet)", 16 WE# (in) "Command inputs: RAS#, CAS#, and WE# (along with CS#) define the command being entered.", 17 CAS# (in) "Command inputs: RAS#, CAS#, and WE# (along with CS#) define the command being entered.", 18 RAS# (in) "Command inputs: RAS#, CAS#, and WE# (along with CS#) define the command being entered.", 19 CS# (in) "Chip select: CS# enables (registered LOW) and disables (registered HIGH) the command decoder. All commands are masked when CS# is registered HIGH, but READ/WRITE bursts already in progress will continue, and DQM operation (See Datasheet)", 20 BA0 (in) "Bank address input(s): BA[1:0] define to which bank the ACTIVE, READ, WRITE, or PRECHARGE command is being applied.", 21 BA1 (in) "Bank address input(s): BA[1:0] define to which bank the ACTIVE, READ, WRITE, or PRECHARGE command is being applied.", 22 A10 (in) "Address inputs: A[12:0] are sampled during the ACTIVE command (row address A[12:0]) and READ or WRITE command (column address A[9:0] and A11 for x4; A[9:0] for x8; A[8:0] for x16; with A10 defining auto precharge) to select (See Datasheet)", 23 A0 (in) "Address inputs: A[12:0] are sampled during the ACTIVE command (row address A[12:0]) and READ or WRITE command (column address A[9:0] and A11 for x4; A[9:0] for x8; A[8:0] for x16; with A10 defining auto precharge) to select (See Datasheet)", 24 A1 (in) "Address inputs: A[12:0] are sampled during the ACTIVE command (row address A[12:0]) and READ or WRITE command (column address A[9:0] and A11 for x4; A[9:0] for x8; A[8:0] for x16; with A10 defining auto precharge) to select (See Datasheet)", 25 A2 (in) "Address inputs: A[12:0] are sampled during the ACTIVE command (row address A[12:0]) and READ or WRITE command (column address A[9:0] and A11 for x4; A[9:0] for x8; A[8:0] for x16; with A10 defining auto precharge) to select (See Datasheet)", 26 A3 (in) "Address inputs: A[12:0] are sampled during the ACTIVE command (row address A[12:0]) and READ or WRITE command (column address A[9:0] and A11 for x4; A[9:0] for x8; A[8:0] for x16; with A10 defining auto precharge) to select (See Datasheet)", 29 A4 (in) "Address inputs: A[12:0] are sampled during the ACTIVE command (row address A[12:0]) and READ or WRITE command (column address A[9:0] and A11 for x4; A[9:0] for x8; A[8:0] for x16; with A10 defining auto precharge) to select (See Datasheet)", 30 A5 (in) "Address inputs: A[12:0] are sampled during the ACTIVE command (row address A[12:0]) and READ or WRITE command (column address A[9:0] and A11 for x4; A[9:0] for x8; A[8:0] for x16; with A10 defining auto precharge) to select (See Datasheet)", 31 A6 (in) "Address inputs: A[12:0] are sampled during the ACTIVE command (row address A[12:0]) and READ or WRITE command (column address A[9:0] and A11 for x4; A[9:0] for x8; A[8:0] for x16; with A10 defining auto precharge) to select (See Datasheet)", 32 A7 (in) "Address inputs: A[12:0] are sampled during the ACTIVE command (row address A[12:0]) and READ or WRITE command (column address A[9:0] and A11 for x4; A[9:0] for x8; A[8:0] for x16; with A10 defining auto precharge) to select (See Datasheet)", 33 A8 (in) "Address inputs: A[12:0] are sampled during the ACTIVE command (row address A[12:0]) and READ or WRITE command (column address A[9:0] and A11 for x4; A[9:0] for x8; A[8:0] for x16; with A10 defining auto precharge) to select (See Datasheet)", 34 A9 (in) "Address inputs: A[12:0] are sampled during the ACTIVE command (row address A[12:0]) and READ or WRITE command (column address A[9:0] and A11 for x4; A[9:0] for x8; A[8:0] for x16; with A10 defining auto precharge) to select (See Datasheet)", 35 A11 (in) "Address inputs: A[12:0] are sampled during the ACTIVE command (row address A[12:0]) and READ or WRITE command (column address A[9:0] and A11 for x4; A[9:0] for x8; A[8:0] for x16; with A10 defining auto precharge) to select (See Datasheet)", 36 A12 (in) "Address inputs: A[12:0] are sampled during the ACTIVE command (row address A[12:0]) and READ or WRITE command (column address A[9:0] and A11 for x4; A[9:0] for x8; A[8:0] for x16; with A10 defining auto precharge) to select (See Datasheet)", 37 CKE (in) "Clock enable: CKE activates (HIGH) and deactivates (LOW) the CLK signal. Deactivating the clock provides precharge power-down and SELF REFRESH operation (all banks idle), active power-down (row active in any bank), or CLOCK (See Datasheet)", 38 CLK (in) "Clock: CLK is driven by the system clock. All SDRAM input signals are sampled on the positive edge of CLK. CLK also increments the internal burst counter and controls the output registers.", 39 DQMH (in) "Input/output mask: DQM is sampled HIGH and is an input mask signal for write accesses and an output enable signal for read accesses. Input data is masked during a WRITE cycle. The output buffers are High-Z (two-clock (See Datasheet)", 40 NC "These should be left unconnected. For x4 and x8 parts, G1 is a no connect, but may be used as A12 in future designs.", 42 DQ8 (io) "Data input/output: Data bus for x16 (pins 4, 7, 10, 13, 42, 45, 48, and 51 are NC for x8; and pins 2, 4, 7, 8, 10, 13, 42, 45, 47, 48, 51, and 53 are NC for x4).", 44 DQ9 (io) "Data input/output: Data bus for x16 (pins 4, 7, 10, 13, 42, 45, 48, and 51 are NC for x8; and pins 2, 4, 7, 8, 10, 13, 42, 45, 47, 48, 51, and 53 are NC for x4).", 45 DQ10 (io) "Data input/output: Data bus for x16 (pins 4, 7, 10, 13, 42, 45, 48, and 51 are NC for x8; and pins 2, 4, 7, 8, 10, 13, 42, 45, 47, 48, 51, and 53 are NC for x4).", 47 DQ11 (io) "Data input/output: Data bus for x16 (pins 4, 7, 10, 13, 42, 45, 48, and 51 are NC for x8; and pins 2, 4, 7, 8, 10, 13, 42, 45, 47, 48, 51, and 53 are NC for x4).", 48 DQ12 (io) "Data input/output: Data bus for x16 (pins 4, 7, 10, 13, 42, 45, 48, and 51 are NC for x8; and pins 2, 4, 7, 8, 10, 13, 42, 45, 47, 48, 51, and 53 are NC for x4).", 50 DQ13 (io) "Data input/output: Data bus for x16 (pins 4, 7, 10, 13, 42, 45, 48, and 51 are NC for x8; and pins 2, 4, 7, 8, 10, 13, 42, 45, 47, 48, 51, and 53 are NC for x4).", 51 DQ14 (io) "Data input/output: Data bus for x16 (pins 4, 7, 10, 13, 42, 45, 48, and 51 are NC for x8; and pins 2, 4, 7, 8, 10, 13, 42, 45, 47, 48, 51, and 53 are NC for x4).", 53 DQ15 (io) "Data input/output: Data bus for x16 (pins 4, 7, 10, 13, 42, 45, 48, and 51 are NC for x8; and pins 2, 4, 7, 8, 10, 13, 42, 45, 47, 48, 51, and 53 are NC for x4)."
part B pins: 1 VDD (power) "Power supply: +3.3V +/-0.3V.", 3 VDDQ (power) "DQ power: DQ power to the die for improved noise immunity.", 6 VSSQ (power) "DQ ground: DQ ground to the die for improved noise immunity.", 9 VDDQ (power) "DQ power: DQ power to the die for improved noise immunity.", 12 VSSQ (power) "DQ ground: DQ ground to the die for improved noise immunity.", 14 VDD (power) "Power supply: +3.3V +/-0.3V.", 27 VDD (power) "Power supply: +3.3V +/-0.3V.", 28 VSS (power) "Ground.", 41 VSS (power) "Ground.", 43 VDDQ (power) "DQ power: DQ power to the die for improved noise immunity.", 46 VSSQ (power) "DQ ground: DQ ground to the die for improved noise immunity.", 49 VDDQ (power) "DQ power: DQ power to the die for improved noise immunity.", 52 VSSQ (power) "DQ ground: DQ ground to the die for improved noise immunity.", 54 VSS (power) "Ground."

## MMBT3904WT1
designator Q?, comment MMBT3904
TRANS NPN 40V 0.2A SOT323; Manufacturer: ON Semiconductor; Manufacturer PN: MMBT3904WT1G; CompinentLink1Description: Datasheet; ComponentLink1URL: http://www.onsemi.com/pub_link/Collateral/MMBT3904WT1-D.PDF; Supplier 1: Newark; Supplier 2: Digi-Key; Supplier Part Number 1: 88H4788; Supplier Part Number 2: MMBT3904WT1GOSCT-ND
footprint SOT65P210X110-3N (SOT323/SC-70, 3-Leads, Body 2.2x2.2mm (max), Pitch 0.65mm, IPC Medium Density)
pins: 1 B, 2 E, 3 C

## MMZ1608Y102B
designator L?
Ferrite, 1000oh, 400mA, 0603; ComponentLink1Description: Datasheet; ComponentLink1URL: http://www.tdk.co.jp/tefe02/e9412_mmz.pdf; Supplier 1: Newark; Supplier 2: Digi-Key; Supplier Part Number 1: 33P7606; Supplier Part Number 2: 445-1552-1-ND
footprint INDC1608X06N (Chip Inductor, 2-Leads, Body 1.6x0.8mm, IPC Medium Density)
pins: 1, 2

## MPZ1608R391A
designator L?
Ferrite, 390oh, 1.2A, 0603; ComponentLink1Description: Datasheet; ComponentLink1URL: http://www.tdk.co.jp/tefe02/e9413_mpz.pdf; Supplier 1: Newark; Supplier 2: Digi-Key; Supplier Part Number 1: 89R3147; Supplier Part Number 2: 445-2982-1-ND
footprint INDC1608X06N (Chip Inductor, 2-Leads, Body 1.6x0.8mm, IPC Medium Density)
pins: 1, 2

## MS860702BA01-50
designator X?
Humidity, Pressure, Temperature Sensor I²C Output; Manufacturer: TE Connectivity; ManufacturerPN: MS860702BA01-50; ComponentLink1Description: Datasheet; ComponentLink1URL: http://www.te.com/commerce/DocumentDelivery/DDEController?Action=srchrtrv&DocNm=MS8607-02BA01&DocType=DS&DocLang=English; Supplier 1: Digi-Key; Supplier Part Number 1: 223-1701-1-ND
footprint TETempHumidityPressSens (TE Connectivity MS8607-02BA01)
pins: 1 Vdd, 2 NC, 3 GND, 4 NC, 5 NC, 6 NC, 7 SDA, 8 SCL
text: Temp,Hum,Pressure; 0x76, 0x40

## MSA_0885
designator U?, comment MSA-0885
Amplifier 22.5dB@1GHz  7.8V 36mA; ComponentLink1URL: http://www.avagotech.com/docs/5989-2744EN; ComponentLink1Description: Datasheet; Supplier 1: Digi-Key; Supplier 2: Newark; Supplier Part Number 1: 516-1592-1-ND; Supplier Part Number 2: 64J0443
footprint AVAGO_85mil_Plastic
pins: 1 (in), 2 (power), 3 (out)

## MV89
designator Y?, comment MORION MV89
OCXO 10.000MHz  12V 51mmx51mm; Manufacturer: Morion Inc; Manufacturer PN: MV89-A005C-10.0MHz; ComponentLink1Description: Datasheet; ComponentLink1URL: http://morion.com.ru/catalog_pdf/MV89-OCXO.pdf
footprint Morion_MV89
pins: 1 GND (power), 2 OUT (out), 3 Vref, 4 EFC (in), 5 VDD (power)
text: 10.000 MHz; OCXO

## MX25L25635E
designator U?
Memory Flash 256Mbit SPI SOIC16; ComponentLink1Description: Datasheet; ComponentLink1URL: http://www.macronix.com/QuickPlace/hq/PageLibrary4825740B00298A3B.nsf/h_Index/3F21BAC2E121E17848257639003A3146/$File/MX25L25635E,%203V,%20256Mb,%20v1.2.pdf; Supplier 1: Digi-Key; Supplier Part Number 1: 1092-1087-ND
footprint SOP127P1030X265-16N (SOP, 16-Leads, Body 10.5x7.6mm (max), Pitch 1.27mm, IPC Medium Density)
pins: 1 ~{HOLD}/IO3 (io), 2 VCC (power), 7 ~{CS} (in), 8 DO/IO1 (io), 9 ~{W}/IO2 (io), 10 GND (power), 15 DI/IO0 (io), 16 CLK (in)

## NAND-DUAL
designator U?
Part Field 1: IC 2-INPUT NAND GATE DUAL; Part Field 2: TC7W00F(TE12L); Part Field 3: TC7W00FCT
footprint SO8
pins: 1 1A, 2 1B, 3 2Y, 4 GND, 5 2A, 6 2B, 7 1Y, 8 VCC

## NDC7003P
designator Q?
MOSFET 2P-CH 60V 0.34A SSOT6; Manufacturer: ON Semiconductor; ComponentLink1Description: Datasheet; ComponentLink1URL: https://www.fairchildsemi.com/datasheets/ND/NDC7003P.pdf; Manufacturer PN: NDC7003P; Supplier 1: Digi-Key; Supplier 2: Newark; Supplier 3: Arrow; Supplier Part Number 1: NDC7003PCT-ND; Supplier Part Number 2: 58K2009; Supplier Part Number 3: ZEuIpdpjLCpv1_bLG1MttjcXjGZ6vsKXsl16FrbBqDQ
footprint FairchildSSOT6 (SOT23, 6-Leads, Body 2.90x2.80mm, Pitch 0.95mm, IPC Medium Density)
part A pins: 1 G1, 5 S1, 6 D1
part B pins: 2 S2, 3 G2, 4 D2

## NUP4301MR6T1G
designator D?
Diode Array, ESD Protection 1.5pF; ComponentLink1Description: Datasheet; ComponentLink1URL: http://www.onsemi.com/pub_link/Collateral/NUP4301MR6T1-D.PDF; Supplier 1: Newark; Supplier 2: Digi-Key; Supplier Part Number 1: 06R3479; Supplier Part Number 2: NUP4301MR6T1GOSCT-ND
footprint SOT95P275X110-6N (SOT23, 6-Leads, Body 3.1x3.0mm (max), Pitch 0.95mm, IPC Medium Density)
pins: 1 A, 1, 1 A, 1 A, 1 A, 1 A, 1 A, 1 A, 1 A, 2 K, 2, 2 K, 2 K, 2 K, 2 K, 2 K, 2 K, 2 K, 3, 4, 5, 6

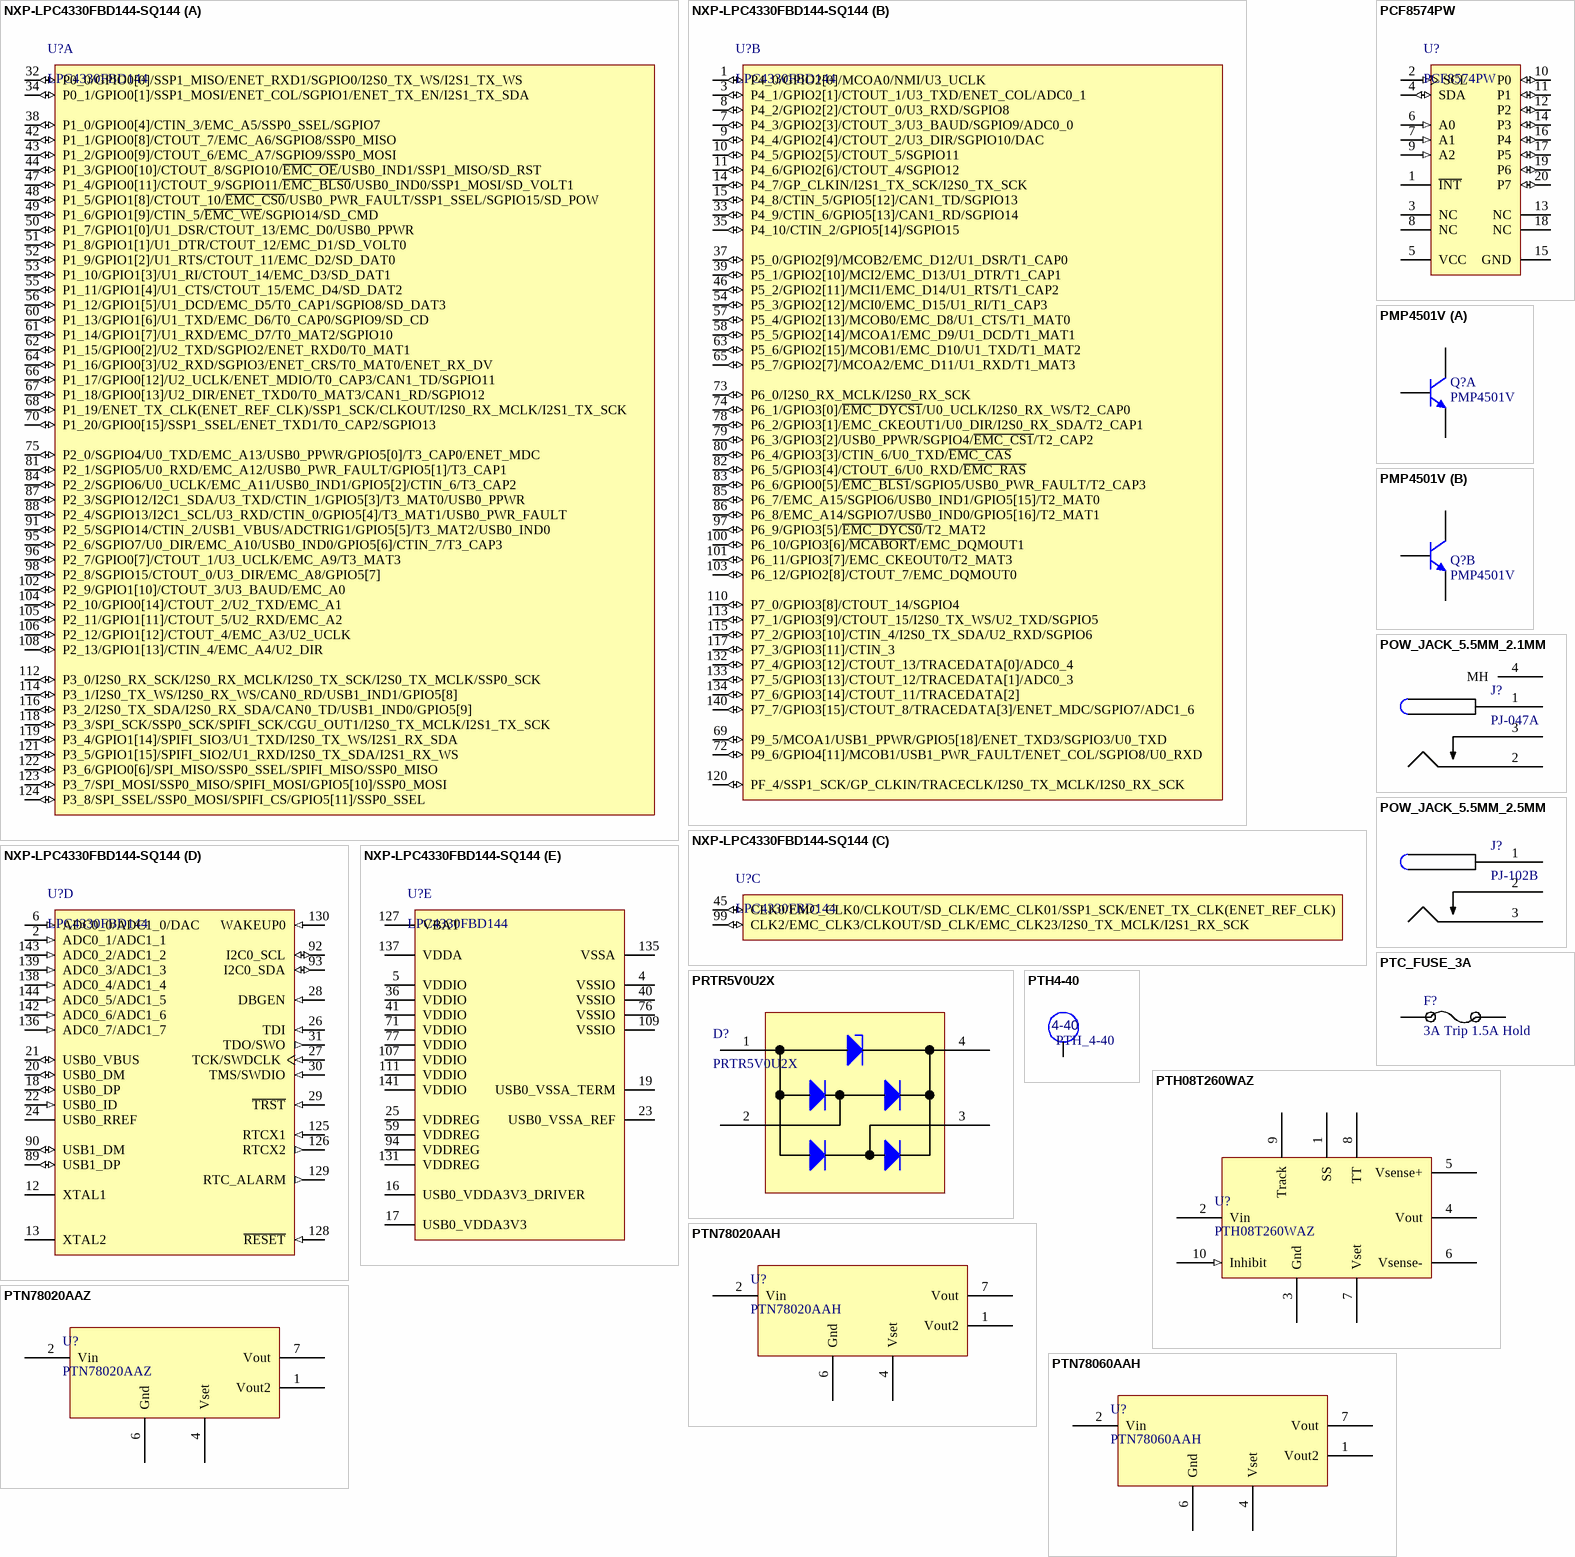
[diagram p7: symbols NXP-LPC4330FBD144-SQ144 to PTN78060AAH]

## NXP-LPC4330FBD144-SQ144
designator U?, comment LPC4330FBD144
IC MCU 32BIT 144LQFP; Manufacturer: NXP Semiconductors; Manufacturer PN: LPC4330FBD144,551; ComponentLink1Description: Datasheet; ComponentLink1URL: http://www.nxp.com/documents/data_sheet/LPC4350_30_20_10.pdf; Supplier 1: Newark; Supplier Part Number 1: 91T5009; Supplier 2: Arrow; Supplier Part Number 2: 51887351S9558002N7788; Supplier 3: Mouser; Supplier Part Number 3: 771-LPC4330FBD144551; Supplier 4: Digi-Key; Supplier Part Number 4: 568-9450-ND
footprint SOT486-1_M (Thin QFP, 144-Leads, Body 20x20mm, Pitch 0.5mm, IPC Low Density)
part A pins: 32 P0_0/GPIO0[0]/SSP1_MISO/ENET_RXD1/SGPIO0/I2S0_TX_WS/I2S1_TX_WS (io), 34 P0_1/GPIO0[1]/SSP1_MOSI/ENET_COL/SGPIO1/ENET_TX_EN/I2S1_TX_SDA (io), 38 P1_0/GPIO0[4]/CTIN_3/EMC_A5/SSP0_SSEL/SGPIO7 (io), 42 P1_1/GPIO0[8]/CTOUT_7/EMC_A6/SGPIO8/SSP0_MISO (io), 43 P1_2/GPIO0[9]/CTOUT_6/EMC_A7/SGPIO9/SSP0_MOSI (io), 44 P1_3/GPIO0[10]/CTOUT_8/SGPIO10/~{EMC_OE}/USB0_IND1/SSP1_MISO/SD_RST (io), 47 P1_4/GPIO0[11]/CTOUT_9/SGPIO11/~{EMC_BLS0}/USB0_IND0/SSP1_MOSI/SD_VOLT1 (io), 48 P1_5/GPIO1[8]/CTOUT_10/~{EMC_CS0}/USB0_PWR_FAULT/SSP1_SSEL/SGPIO15/SD_POW (io), 49 P1_6/GPIO1[9]/CTIN_5/~{EMC_WE}/SGPIO14/SD_CMD (io), 50 P1_7/GPIO1[0]/U1_DSR/CTOUT_13/EMC_D0/USB0_PPWR (io), 51 P1_8/GPIO1[1]/U1_DTR/CTOUT_12/EMC_D1/SD_VOLT0 (io), 52 P1_9/GPIO1[2]/U1_RTS/CTOUT_11/EMC_D2/SD_DAT0 (io), 53 P1_10/GPIO1[3]/U1_RI/CTOUT_14/EMC_D3/SD_DAT1 (io), 55 P1_11/GPIO1[4]/U1_CTS/CTOUT_15/EMC_D4/SD_DAT2 (io), 56 P1_12/GPIO1[5]/U1_DCD/EMC_D5/T0_CAP1/SGPIO8/SD_DAT3 (io), 60 P1_13/GPIO1[6]/U1_TXD/EMC_D6/T0_CAP0/SGPIO9/SD_CD (io), 61 P1_14/GPIO1[7]/U1_RXD/EMC_D7/T0_MAT2/SGPIO10 (io), 62 P1_15/GPIO0[2]/U2_TXD/SGPIO2/ENET_RXD0/T0_MAT1 (io), 64 P1_16/GPIO0[3]/U2_RXD/SGPIO3/ENET_CRS/T0_MAT0/ENET_RX_DV (io), 66 P1_17/GPIO0[12]/U2_UCLK/ENET_MDIO/T0_CAP3/CAN1_TD/SGPIO11 (io), 67 P1_18/GPIO0[13]/U2_DIR/ENET_TXD0/T0_MAT3/CAN1_RD/SGPIO12 (io), 68 P1_19/ENET_TX_CLK(ENET_REF_CLK)/SSP1_SCK/CLKOUT/I2S0_RX_MCLK/I2S1_TX_SCK (io), 70 P1_20/GPIO0[15]/SSP1_SSEL/ENET_TXD1/T0_CAP2/SGPIO13 (io), 75 P2_0/SGPIO4/U0_TXD/EMC_A13/USB0_PPWR/GPIO5[0]/T3_CAP0/ENET_MDC (io), 81 P2_1/SGPIO5/U0_RXD/EMC_A12/USB0_PWR_FAULT/GPIO5[1]/T3_CAP1 (io), 84 P2_2/SGPIO6/U0_UCLK/EMC_A11/USB0_IND1/GPIO5[2]/CTIN_6/T3_CAP2 (io), 87 P2_3/SGPIO12/I2C1_SDA/U3_TXD/CTIN_1/GPIO5[3]/T3_MAT0/USB0_PPWR (io), 88 P2_4/SGPIO13/I2C1_SCL/U3_RXD/CTIN_0/GPIO5[4]/T3_MAT1/USB0_PWR_FAULT (io), 91 P2_5/SGPIO14/CTIN_2/USB1_VBUS/ADCTRIG1/GPIO5[5]/T3_MAT2/USB0_IND0 (io), 95 P2_6/SGPIO7/U0_DIR/EMC_A10/USB0_IND0/GPIO5[6]/CTIN_7/T3_CAP3 (io), 96 P2_7/GPIO0[7]/CTOUT_1/U3_UCLK/EMC_A9/T3_MAT3 (io), 98 P2_8/SGPIO15/CTOUT_0/U3_DIR/EMC_A8/GPIO5[7] (io), 102 P2_9/GPIO1[10]/CTOUT_3/U3_BAUD/EMC_A0 (io), 104 P2_10/GPIO0[14]/CTOUT_2/U2_TXD/EMC_A1 (io), 105 P2_11/GPIO1[11]/CTOUT_5/U2_RXD/EMC_A2 (io), 106 P2_12/GPIO1[12]/CTOUT_4/EMC_A3/U2_UCLK (io), 108 P2_13/GPIO1[13]/CTIN_4/EMC_A4/U2_DIR (io), 112 P3_0/I2S0_RX_SCK/I2S0_RX_MCLK/I2S0_TX_SCK/I2S0_TX_MCLK/SSP0_SCK (io), 114 P3_1/I2S0_TX_WS/I2S0_RX_WS/CAN0_RD/USB1_IND1/GPIO5[8] (io), 116 P3_2/I2S0_TX_SDA/I2S0_RX_SDA/CAN0_TD/USB1_IND0/GPIO5[9] (io), 118 P3_3/SPI_SCK/SSP0_SCK/SPIFI_SCK/CGU_OUT1/I2S0_TX_MCLK/I2S1_TX_SCK (io), 119 P3_4/GPIO1[14]/SPIFI_SIO3/U1_TXD/I2S0_TX_WS/I2S1_RX_SDA (io), 121 P3_5/GPIO1[15]/SPIFI_SIO2/U1_RXD/I2S0_TX_SDA/I2S1_RX_WS (io), 122 P3_6/GPIO0[6]/SPI_MISO/SSP0_SSEL/SPIFI_MISO/SSP0_MISO (io), 123 P3_7/SPI_MOSI/SSP0_MISO/SPIFI_MOSI/GPIO5[10]/SSP0_MOSI (io), 124 P3_8/SPI_SSEL/SSP0_MOSI/SPIFI_CS/GPIO5[11]/SSP0_SSEL (io)
part B pins: 1 P4_0/GPIO2[0]/MCOA0/NMI/U3_UCLK (io), 3 P4_1/GPIO2[1]/CTOUT_1/U3_TXD/ENET_COL/ADC0_1 (io), 7 P4_3/GPIO2[3]/CTOUT_3/U3_BAUD/SGPIO9/ADC0_0 (io), 8 P4_2/GPIO2[2]/CTOUT_0/U3_RXD/SGPIO8 (io), 9 P4_4/GPIO2[4]/CTOUT_2/U3_DIR/SGPIO10/DAC (io), 10 P4_5/GPIO2[5]/CTOUT_5/SGPIO11 (io), 11 P4_6/GPIO2[6]/CTOUT_4/SGPIO12 (io), 14 P4_7/GP_CLKIN/I2S1_TX_SCK/I2S0_TX_SCK (io), 15 P4_8/CTIN_5/GPIO5[12]/CAN1_TD/SGPIO13 (io), 33 P4_9/CTIN_6/GPIO5[13]/CAN1_RD/SGPIO14 (io), 35 P4_10/CTIN_2/GPIO5[14]/SGPIO15 (io), 37 P5_0/GPIO2[9]/MCOB2/EMC_D12/U1_DSR/T1_CAP0 (io), 39 P5_1/GPIO2[10]/MCI2/EMC_D13/U1_DTR/T1_CAP1 (io), 46 P5_2/GPIO2[11]/MCI1/EMC_D14/U1_RTS/T1_CAP2 (io), 54 P5_3/GPIO2[12]/MCI0/EMC_D15/U1_RI/T1_CAP3 (io), 57 P5_4/GPIO2[13]/MCOB0/EMC_D8/U1_CTS/T1_MAT0 (io), 58 P5_5/GPIO2[14]/MCOA1/EMC_D9/U1_DCD/T1_MAT1 (io), 63 P5_6/GPIO2[15]/MCOB1/EMC_D10/U1_TXD/T1_MAT2 (io), 65 P5_7/GPIO2[7]/MCOA2/EMC_D11/U1_RXD/T1_MAT3 (io), 69 P9_5/MCOA1/USB1_PPWR/GPIO5[18]/ENET_TXD3/SGPIO3/U0_TXD (io), 72 P9_6/GPIO4[11]/MCOB1/USB1_PWR_FAULT/ENET_COL/SGPIO8/U0_RXD (io), 73 P6_0/I2S0_RX_MCLK/I2S0_RX_SCK (io), 74 P6_1/GPIO3[0]/~{EMC_DYCS1}/U0_UCLK/I2S0_RX_WS/T2_CAP0 (io), 78 P6_2/GPIO3[1]/EMC_CKEOUT1/U0_DIR/I2S0_RX_SDA/T2_CAP1 (io), 79 P6_3/GPIO3[2]/USB0_PPWR/SGPIO4/~{EMC_CS1}/T2_CAP2 (io), 80 P6_4/GPIO3[3]/CTIN_6/U0_TXD/~{EMC_CAS} (io), 82 P6_5/GPIO3[4]/CTOUT_6/U0_RXD/~{EMC_RAS} (io), 83 P6_6/GPIO0[5]/~{EMC_BLS1}/SGPIO5/USB0_PWR_FAULT/T2_CAP3 (io), 85 P6_7/EMC_A15/SGPIO6/USB0_IND1/GPIO5[15]/T2_MAT0 (io), 86 P6_8/EMC_A14/SGPIO7/USB0_IND0/GPIO5[16]/T2_MAT1 (io), 97 P6_9/GPIO3[5]/~{EMC_DYCS0}/T2_MAT2 (io), 100 P6_10/GPIO3[6]/~{MCABORT}/EMC_DQMOUT1 (io), 101 P6_11/GPIO3[7]/EMC_CKEOUT0/T2_MAT3 (io), 103 P6_12/GPIO2[8]/CTOUT_7/EMC_DQMOUT0 (io), 110 P7_0/GPIO3[8]/CTOUT_14/SGPIO4 (io), 113 P7_1/GPIO3[9]/CTOUT_15/I2S0_TX_WS/U2_TXD/SGPIO5 (io), 115 P7_2/GPIO3[10]/CTIN_4/I2S0_TX_SDA/U2_RXD/SGPIO6 (io), 117 P7_3/GPIO3[11]/CTIN_3 (io), 120 PF_4/SSP1_SCK/GP_CLKIN/TRACECLK/I2S0_TX_MCLK/I2S0_RX_SCK (io), 132 P7_4/GPIO3[12]/CTOUT_13/TRACEDATA[0]/ADC0_4 (io), 133 P7_5/GPIO3[13]/CTOUT_12/TRACEDATA[1]/ADC0_3 (io), 134 P7_6/GPIO3[14]/CTOUT_11/TRACEDATA[2] (io), 140 P7_7/GPIO3[15]/CTOUT_8/TRACEDATA[3]/ENET_MDC/SGPIO7/ADC1_6 (io)
part C pins: 45 CLK0/EMC_CLK0/CLKOUT/SD_CLK/EMC_CLK01/SSP1_SCK/ENET_TX_CLK(ENET_REF_CLK) (io), 99 CLK2/EMC_CLK3/CLKOUT/SD_CLK/EMC_CLK23/I2S0_TX_MCLK/I2S1_RX_SCK (io)
part D pins: 2 ADC0_1/ADC1_1 (in), 6 ADC0_0/ADC1_0/DAC (in), 12 XTAL1, 13 XTAL2, 18 USB0_DP (io), 20 USB0_DM (io), 21 USB0_VBUS (io), 22 USB0_ID (in), 24 USB0_RREF, 26 TDI (in), 27 TCK/SWDCLK (in), 28 DBGEN (in), 29 ~{TRST} (in), 30 TMS/SWDIO (in), 31 TDO/SWO (out), 89 USB1_DP (io), 90 USB1_DM (io), 92 I2C0_SCL (io), 93 I2C0_SDA (io), 125 RTCX1 (in), 126 RTCX2 (out), 128 ~{RESET} (in), 129 RTC_ALARM (out), 130 WAKEUP0 (in), 136 ADC0_7/ADC1_7 (in), 138 ADC0_4/ADC1_4 (in), 139 ADC0_3/ADC1_3 (in), 142 ADC0_6/ADC1_6 (in), 143 ADC0_2/ADC1_2 (in), 144 ADC0_5/ADC1_5 (in)
part E pins: 4 VSSIO (power), 5 VDDIO (power), 16 USB0_VDDA3V3_DRIVER (power), 17 USB0_VDDA3V3 (power), 19 USB0_VSSA_TERM (power), 23 USB0_VSSA_REF (power), 25 VDDREG (power), 36 VDDIO (power), 40 VSSIO (power), 41 VDDIO (power), 59 VDDREG (power), 71 VDDIO (power), 76 VSSIO (power), 77 VDDIO (power), 94 VDDREG (power), 107 VDDIO (power), 109 VSSIO (power), 111 VDDIO (power), 127 VBAT (power), 131 VDDREG (power), 135 VSSA (power), 137 VDDA (power), 141 VDDIO (power)

## PCF8574PW
designator U?
Remote 8-Bit I/O Expander for I2C-Bus, 2.5 to 6 V, -40 to 85 degC, 20-pin TSSOP (PW), Green (RoHS & no Sb/Br); Manufacturer: Texas Instruments; TPN: 156-8878-00; Supplier 1: Digi-Key; Supplier Part Number 1: 296-13110-1-ND; Supplier 2: Newark; Supplier Part Number 2: 02H5307; Supplier 3: Mouser; Supplier Part Number 3: 595-PCF8574PW; Manufacturer PN: PCF8574PW; ComponentLink1Description: Datasheet; ComponentLink1URL: http://www.ti.com/lit/ds/symlink/pcf8574.pdf
footprint PW20_N (TSOP, 20-Leads, Body 6.5x4.4mm, Pitch 0.65mm, IPC Medium Density)
footprint PW20_L (TSOP, 20-Leads, Body 6.5x4.4mm, Pitch 0.65mm, IPC High Density)
footprint PW20_M (TSOP, 20-Leads, Body 6.5x4.4mm, Pitch 0.65mm, IPC Low Density)
pins: 1 ~{INT} (oc), 2 SCL (in), 3 NC, 4 SDA (io), 5 VCC (power), 6 A0 (in), 7 A1 (in), 8 NC, 9 A2 (in), 10 P0 (io), 11 P1 (io), 12 P2 (io), 13 NC, 14 P3 (io), 15 GND (power), 16 P4 (io), 17 P5 (io), 18 NC, 19 P6 (io), 20 P7 (io)

## PMP4501V
designator Q?
NPN Matched dual BJT
signal-integrity model PMP4501V (NXP Dual matched NPN)
footprint SOT666_NXP (SOT666, 6-Leads, Body 1.7x1.7mm (max), Pitch 0.50mm, IPC Medium Density)
part A pins: 1 B1, 5 E1, 6 C1
part B pins: 2 B2, 3 C2, 4 E2

## POW_JACK_5.5MM_2.1MM
designator J?, comment PJ-047A
CONN POWER JACK 5.5MMx2.1MM PCB CIRC; Manufacturer: CUI Inc; Manufacturer PN: PJ-102B; ComponenLink1Type: Datasheet; ComponentLink1URL: http://www.cui.com/Product/Resource/DigiKeyPDF/PJ-102B.pdf; Supplier 1: Digi-Key; Supplier Part Number 1: CP-047AH-ND; Supplier 2: Mouser; Supplier Part Number 2: 490-PJ-047AH
footprint PJ-047A (Jack, Power 5.5mmx2.1mm coaxial Thru-hole)
pins: 1, 2, 3, 4 MH

## POW_JACK_5.5MM_2.5MM
designator J?, comment PJ-102B
CONN POWER JACK 2.5MM PCB CIRC; Manufacturer: CUI Inc; ComponenLink1Type: Datasheet; Manufacturer PN: PJ-102B; ComponentLink1URL: http://www.cui.com/Product/Resource/DigiKeyPDF/PJ-102B.pdf; Supplier 1: Digi-Key; Supplier Part Number 1: CP-102B-ND
footprint PJ-102B (Power coaxial jack 2.5mm Pin, 5.5mm barrel)
pins: 1, 2, 3

## PRTR5V0U2X
designator D?
Diode Array, ESD Protection 1pF USB2.0 SOT143; Manufacturer: NXP Semiconductors; ComponentLink1Description: Datasheet; ComponentLink1URL: http://www.nxp.com/documents/data_sheet/PRTR5V0U2X.pdf; Manufacturer PN: PRTR5V0U2X; Supplier 1: Digi-Key; Supplier Part Number 1: 568-4140-1-ND; Supplier 2: Mouser; Supplier Part Number 2: 771-PRTR5V0U2X-T/R; Supplier 3: Newark; Supplier Part Number 3: 75R4845
footprint SOT190P230X110-4N (SOT143, 4-Leads, Body 3.0x2.5mm (max), Pitch 1.90mm, IPC Medium Density)
pins: 1, 2, 3, 4

## PTC_FUSE_3A
designator F?, comment 3A Trip 1.5A Hold
PTC RESETTABLE 24V 1.50A HOLD 3A TRIP 1812L; Manufacturer PN: 1812L150/24MR; Manufacturer: Littelfuse; ComponentLink1Description: Datasheet; ComponentLink1URL: http://www.littelfuse.com/data/en/Data_Sheets/Littelfuse_PTC_1812L.pdf; Supplier 1: Newark; Supplier Part Number 1: 05M2407; Supplier 2: Digi-Key; Supplier Part Number 2: F3487CT-ND; Supplier 3: Arrow; Supplier Part Number 3: 42930471S9079391N3675
footprint PTCFUSE4532X18N (PTC Fuse, 2-Leads, Body 4.5x3.2mm, IPC Medium Density)
pins: 1, 2

## PTH4-40
designator M?, comment PTH_4-40  (no BOM)
Plated through hole for 4-40 screw
footprint PTH_4-40 (Plated through hole with clearance for 4-40 screw)
pins: 1
text: 4-40

## PTH08T260WAZ
designator U?
DC/DC Pos out 3A SMT; Manufacturer: Texas Instruments; Manufacturer PN: OPTH08T260WAZ; ComponentLink1Description: Datasheet; ComponentLink1URL: http://www.ti.com/lit/ds/symlink/pth08t260w.pdf; Supplier 1: Digi-Key; Supplier Part Number 1: 296-21406-ND; ComponentLink2Description: Footprint DWG; ComponentLink2URL: http://www.ti.com/lit/ml/mpds292d/mpds292d.pdf
footprint PTH08T260WAZ
pins: 1 SS, 2 Vin (power), 3 Gnd (power), 4 Vout (power), 5 Vsense+, 6 Vsense-, 7 Vset, 8 TT, 9 Track, 10 Inhibit (in)

## PTN78020AAH
designator U?
DC/DC Neg out 4A 25W Thru-hole; Manufacturer: Texas Instruments; ComponentLink1Description: Datasheet; ComponentLink1URL: http://www.ti.com/lit/ds/symlink/ptn78020a.pdf; Supplier 1: Digi-Key; Supplier Part Number 1: 296-20509-ND; Manufacturer PN: PTN78020AAH
footprint PTN78020AAH
pins: 1 Vout2 (power), 2 Vin (power), 4 Vset, 6 Gnd (power), 7 Vout (power)

## PTN78020AAZ
designator U?
DC/DC Neg out 4A 25W SMT; Manufacturer: Texas Instruments; ComponentLink1Description: Datasheet; ComponentLink1URL: http://www.ti.com/lit/ds/symlink/ptn78020a.pdf; Supplier 1: Digi-Key; Supplier Part Number 1: 296-20511-ND; Manufacturer PN: PTN78020AAZ
footprint PTN78020AAZ
pins: 1 Vout2 (power), 2 Vin (power), 4 Vset, 6 Gnd (power), 7 Vout (power)

## PTN78060AAH
designator U?
DC/DC Neg out 4A 15W Thru-hole; Manufacturer: Texas Instruments; ComponentLink1Description: Datasheet; ComponentLink1URL: http://www.ti.com/lit/ds/symlink/ptn78060a.pdf; Supplier 1: Digi-Key; Supplier Part Number 1: 296-20518-ND; Manufacturer PN: 78060AAH
footprint PTN78060AAH
pins: 1 Vout2 (power), 2 Vin (power), 4 Vset, 6 Gnd (power), 7 Vout (power)

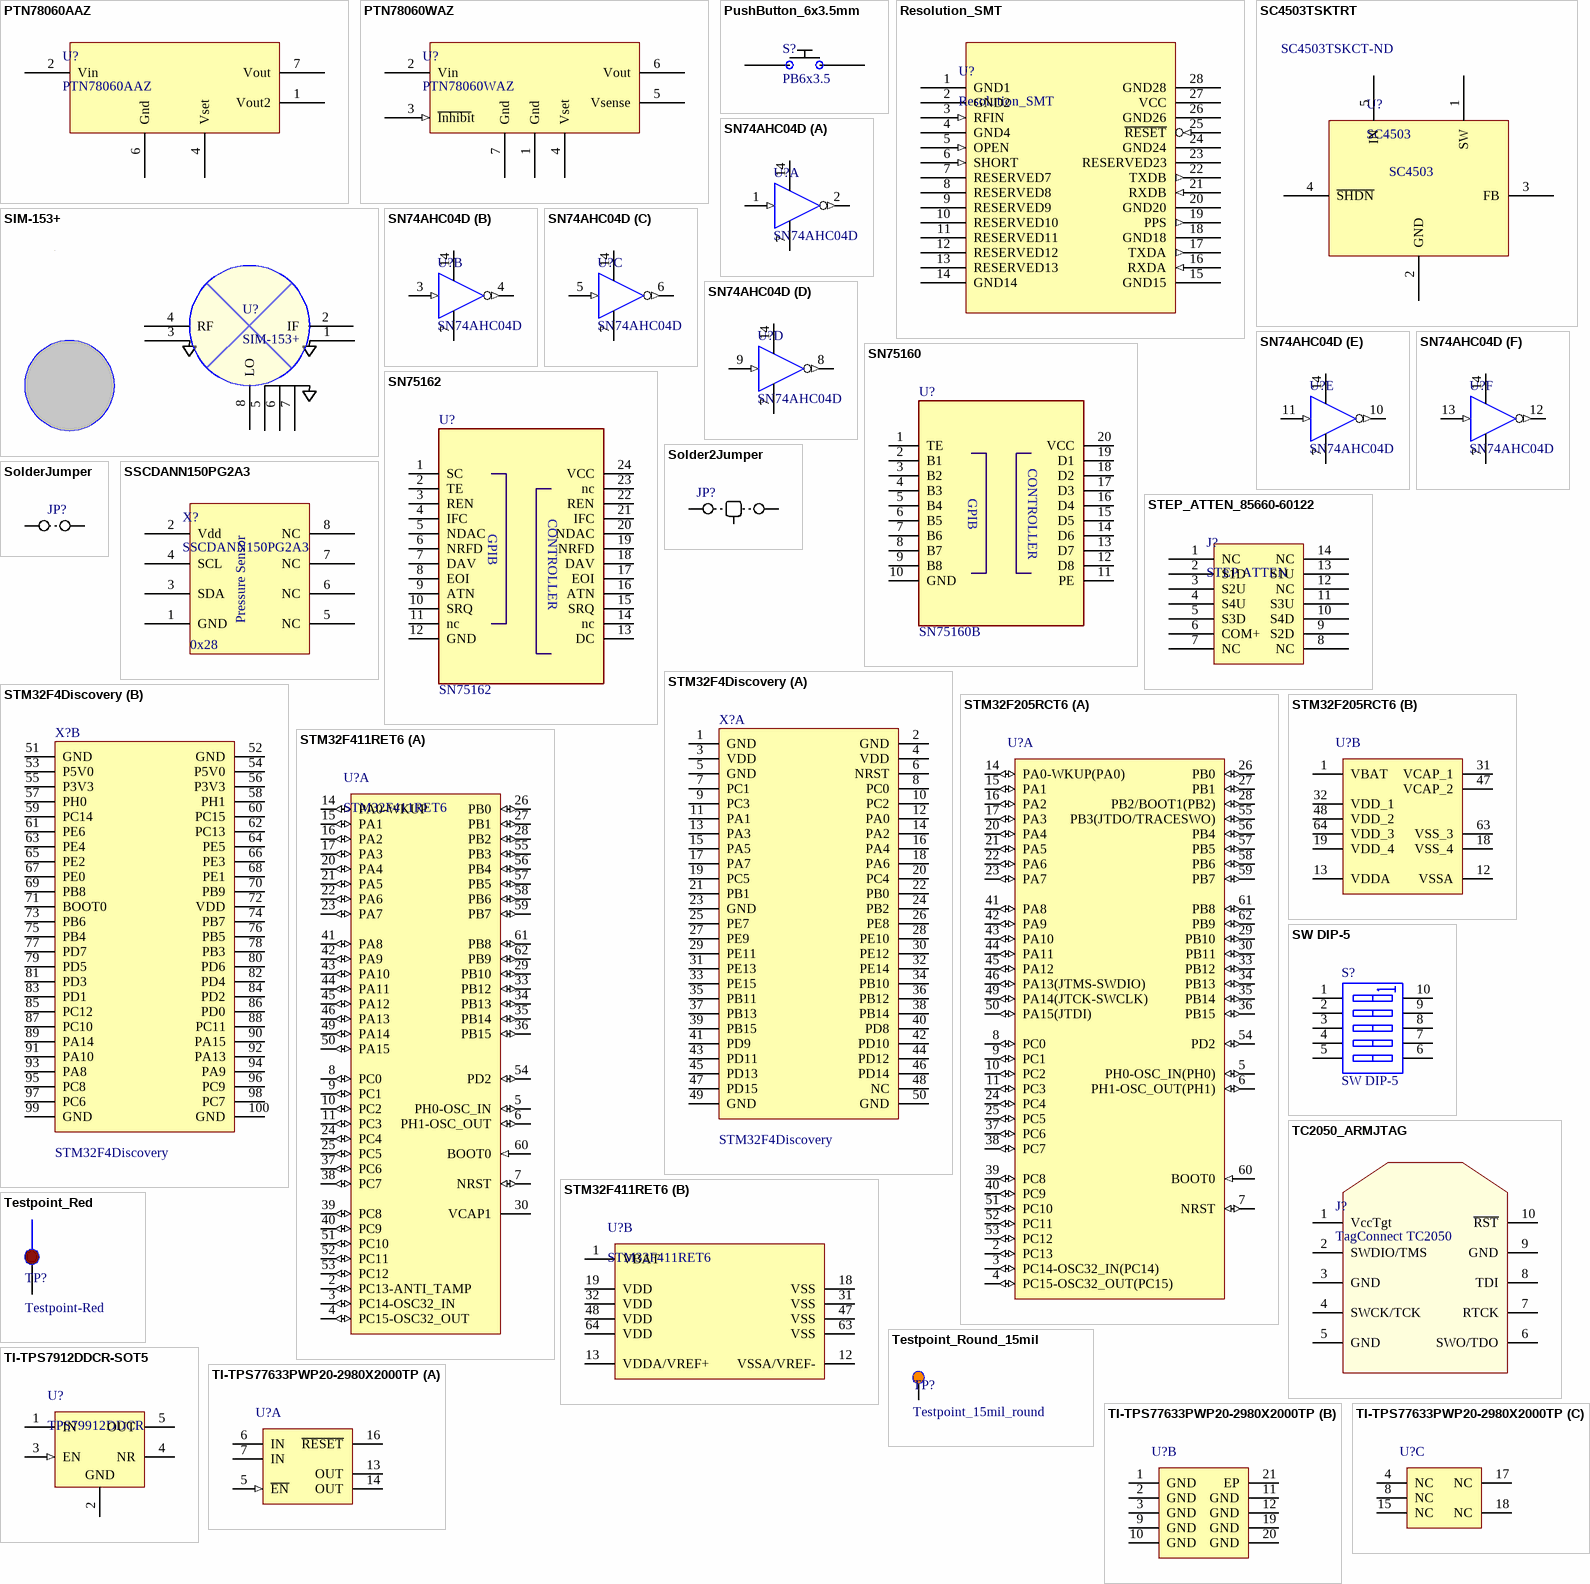
[diagram p8: symbols PTN78060AAZ to TI-TPS77633PWP20-2980X2000TP]

## PTN78060AAZ
designator U?
DC/DC Neg out 4A 15W SMT; Manufacturer: Texas Instruments; ComponentLink1Description: Datasheet; ComponentLink1URL: http://www.ti.com/lit/ds/symlink/ptn78060a.pdf; Supplier 1: Newark; Supplier 2: Digi-Key; Supplier Part Number 1: 92K8253; Supplier Part Number 2: 296-20520-ND; Manufacturer PN: PTN78060AAZ
footprint PTN78060AAZ
pins: 1 Vout2 (power), 2 Vin (power), 4 Vset, 6 Gnd (power), 7 Vout (power)

## PTN78060WAZ
designator U?
DC/DC Pos out 3A SMT; Manufacturer: Texas Instruments; ComponentLink1Description: Datasheet; ComponentLink1URL: http://www.ti.com/lit/ds/symlink/ptn78060w.pdf; Supplier 1: Digi-Key; Supplier 2: Newark; Supplier Part Number 1: 296-20525-ND; Supplier Part Number 2: 92K8256; Manufacturer PN: PTN78060WAZ
footprint PTN78060AAZ
pins: 1 Gnd (power), 2 Vin (power), 3 ~{Inhibi}t (in), 4 Vset, 5 Vsense, 6 Vout (power), 7 Gnd (power)

## PushButton_6x3.5mm
designator S?, comment PB6x3.5
SWITCH TACTILE SPST-NO 0.05A 12V 6x3.5MM; Manufacturer: C&K Components; Manufacturer PN: RS-282G05A3-SM RT; ComponentLink1Description: Datasheet; ComponentLink1URL: http://www.ck-components.com/index.php?module=media&action=Display&cmpref=14408&lang=en&width=&height=&format=&alt=; Supplier 1: Digi-Key; Supplier 2: Arrow; Supplier Part Number 1: CKN10384CT-ND; Supplier Part Number 2: XEA-FyxNPVAE8Jp5x5vU7fJ1AuYvsxXnd5y73BrBtfw
footprint PTS635 (Pushbutton switch 6x3.5mm)
pins: 1, 2

## Resolution_SMT
designator U?
GPS Timing Receiver, Trimble; Manufacturer: Trimble Navigation; Manufacturer PN: Resolution-SMT; ComponentLink1Description: Datasheet; ComponentLink1URL: http://trl.trimble.com/docushare/dsweb/Get/Document-450918/73625-00-ENG_ResolutionSMTUG_RevE.pdf
footprint ICM_SMT
pins: 1 GND1 (power), 2 GND2 (power), 3 RFIN (in), 4 GND4, 5 OPEN (in), 6 SHORT (in), 7 RESERVED7, 8 RESERVED8, 9 RESERVED9, 10 RESERVED10, 11 RESERVED11, 12 RESERVED12, 13 RESERVED13, 14 GND14 (power), 15 GND15 (power), 16 RXDA (in), 17 TXDA (out), 18 GND18 (power), 19 PPS (out), 20 GND20 (power), 21 RXDB (in), 22 TXDB (out), 23 RESERVED23, 24 GND24 (power), 25 ~{RESET} (in), 26 GND26 (power), 27 VCC (power), 28 GND28 (power)

## SC4503TSKTRT
designator U?, comment SC4503  Supplier Part Number 2: SC4503TSKCT-ND
IC REG BOOST ADJ 1.4A TSOT23-5; Manufacturer: Semtech Corporation; Manufacturer PN: SC4503TSKTRT; ComponentLink1Description: Datasheet; ComponentLink1URL: http://www.semtech.com/images/datasheet/sc4503.pdf; Supplier 1: Newark; Supplier Part Number 1: 18M7646; Supplier 2: Digi-Key
footprint RJ5 (SOT23, 5-Leads, Body 3.0x3.0mm (max), Pitch 0.95mm, IPC Medium Density)
pins: 1 SW, 2 GND, 3 FB, 4 ~{SHDN}, 5 IN

## SIM-153+
designator U?
Mixer 3400-15000 MHz +7dBm LO; Manufacturer: Mini-Circuits; ComponentLink1URL: http://www.minicircuits.com/pdfs/SIM-153+.pdf; ComponentLink1Description: Datasheet; Manufacturer PN: SIM-153+
footprint HV1195
pins: 1 G, 2 IF, 3 G, 4 RF, 5 G, 6 G, 7 G, 8 LO